# Altium schematic symbol library SparkFun-Retired.SCHLIB: 390 symbols (part 4 of 5)
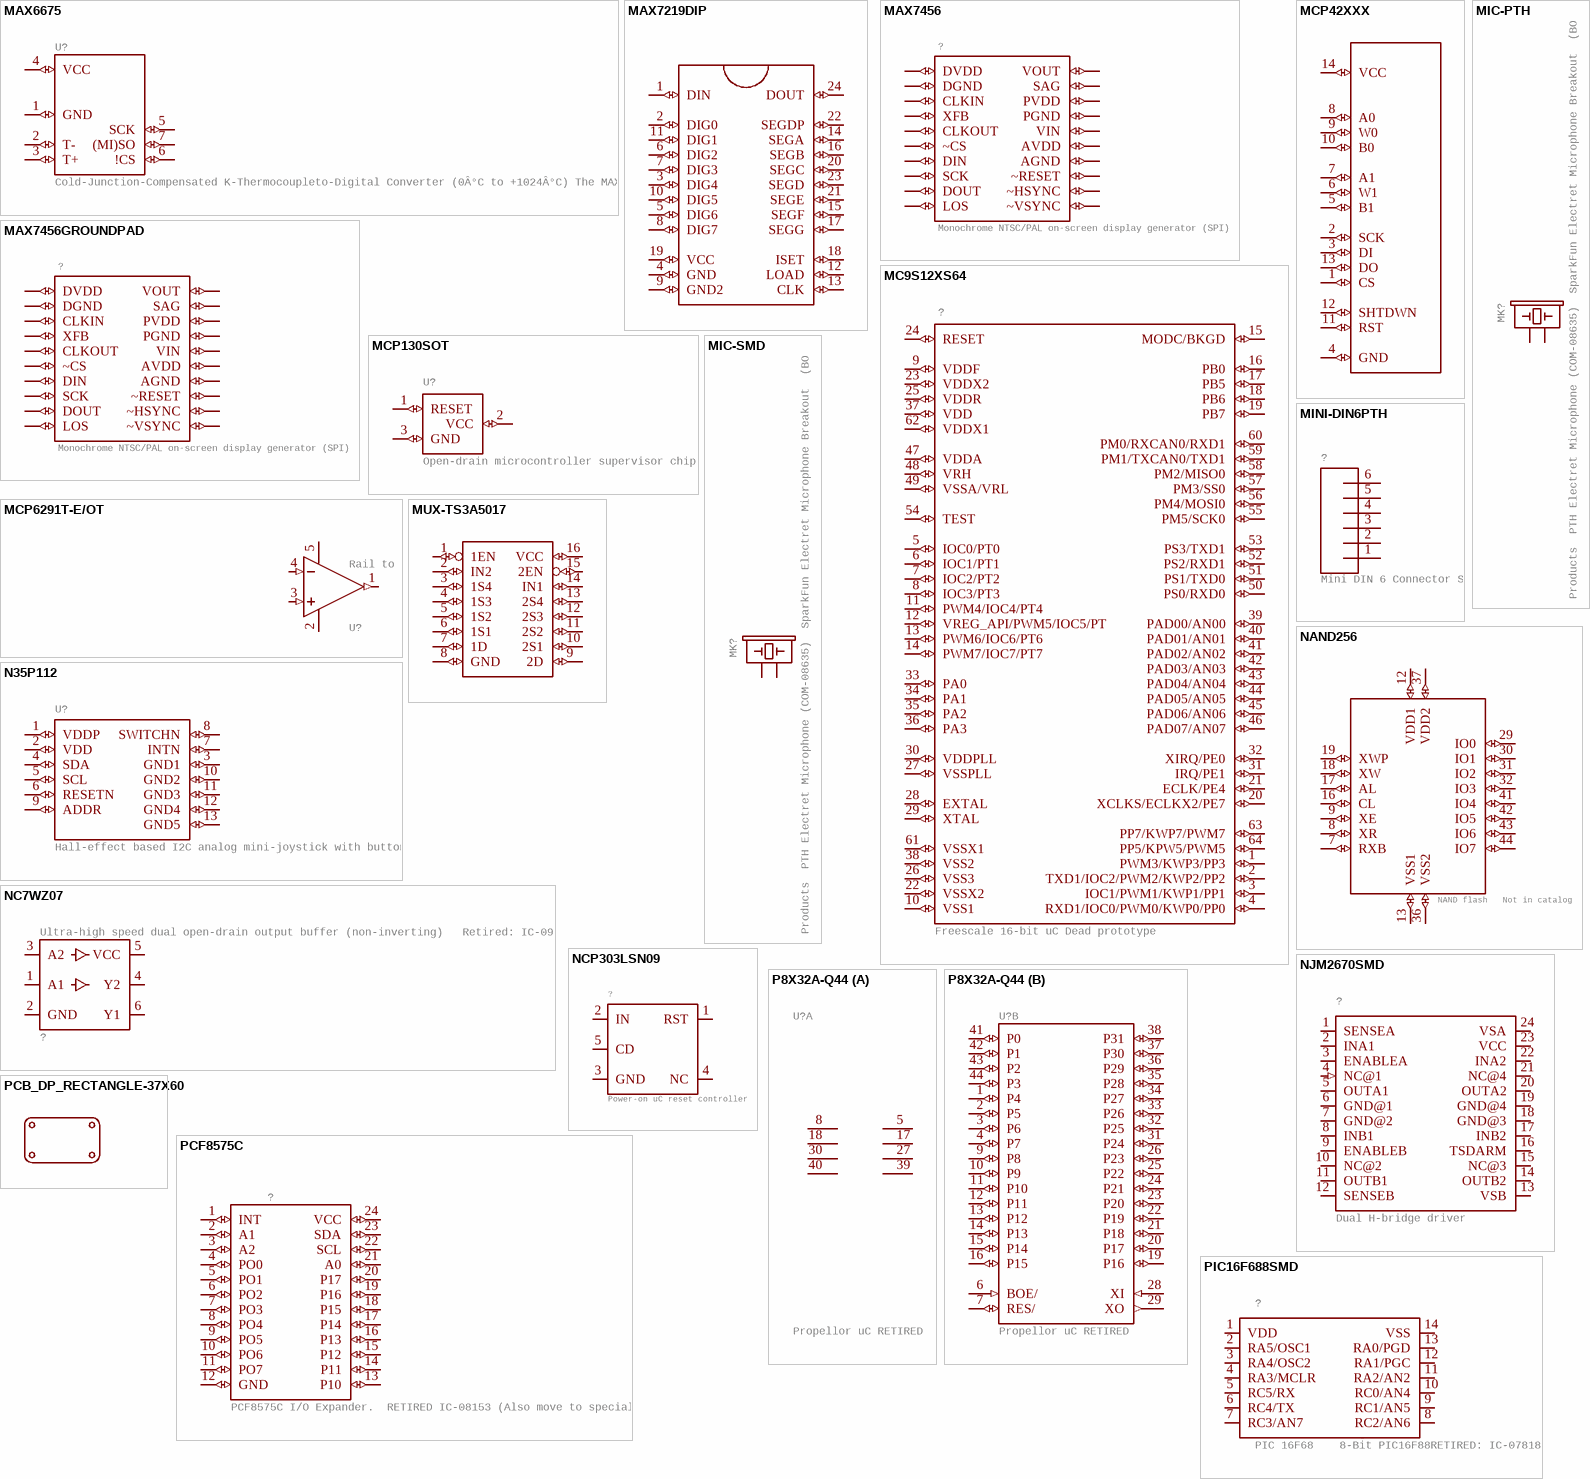
[diagram p29: symbols MAX6675 to PIC16F688SMD]

## MCP42XXX
designator U?, comment SPI controlled dual digital potentiometer by Microchip  Not in catalog?  (value not drawn)
GateName_1: G$1; SymbolName_1: MCP42XXX; LibraryName: SparkFun-Retired; DeviceSetName: MCP42XXX; Package: SO014
footprint SO014
pins: 1 CS (io), 2 SCK (io), 3 DI (io), 4 GND (io), 5 B1 (io), 6 W1 (io), 7 A1 (io), 8 A0 (io), 9 W0 (io), 10 B0 (io), 11 RST (io), 12 SHTDWN (io), 13 DO (io), 14 VCC (io)

## MCP130SOT
designator U?, comment Open-drain microcontroller supervisor chip
GateName_1: G$1; SymbolName_1: MCP130; DeviceName: SOT; LibraryName: SparkFun-Retired; DeviceSetName: MCP130; Package: SOT23-3
footprint SOT23-3
pins: 1 RESET (io), 2 VCC (io), 3 GND (io)

## MCP6291T-E/OT
designator U?, comment Rail to rail OpAmp with 10MHz GBP  Prototype: IC-11991
GateName_1: G$1; SymbolName_1: OP-AMP+-; DeviceName: T-E/OT; DeviceSetName: MCP6291; LibraryName: SparkFun-Retired; Package: SOT23-5; PROD_ID: IC-11991
footprint SOT23-5
pins: 1 OUT (out), 2 V- (power), 3 +IN (in), 4 -IN (in), 5 V+ (power)

## MIC-PTH
designator MK?, comment Microphone    Omni-directional electret microphones - one through-hole, the other SMD.   Datasheet (through-hole mic)   Datasheet (SMD mic) SparkFun Products  PTH Electret Microphone (COM-08635)  SparkFun Electret Microphone Breakout  (BOB-09964)  Digital Sandbox (DEV-12651)  SparkFun Sound Detector (SEN-12642)     SMD Microphone SparkFun Voice Recorder Breakout - ISD1932 (BOB-10653)
GateName_1: >NAME; DeviceName: -PTH; PROD_ID: COMP-08856; SymbolName_1: MIC; LibraryName: SparkFun-Retired; DeviceSetName: MIC; Package: MICROPHONE-PTH-9.7MM; SF_ID: COM-08635
footprint MICROPHONE-PTH-9.7MM
pins: 1, 2

## MIC-SMD
designator MK?, comment Microphone    Omni-directional electret microphones - one through-hole, the other SMD.   Datasheet (through-hole mic)   Datasheet (SMD mic) SparkFun Products  PTH Electret Microphone (COM-08635)  SparkFun Electret Microphone Breakout  (BOB-09964)  Digital Sandbox (DEV-12651)  SparkFun Sound Detector (SEN-12642)     SMD Microphone SparkFun Voice Recorder Breakout - ISD1932 (BOB-10653)
GateName_1: >NAME; DeviceName: -SMD; PROD_ID: COMP-10458; SymbolName_1: MIC; LibraryName: SparkFun-Retired; DeviceSetName: MIC; Package: MICROPHONE-SMD-6MM
footprint MICROPHONE-SMD-6MM
pins: 1, 2

## MINI-DIN6PTH
designator ?, comment Mini DIN 6 Connector SparkFun used to sell this connector and has used it on a couple designs, however the connector and the designs are now retired.   Mini DIN 6 Connector [RETIRED]  SparkFun Key Counter - PS2 [RETIRED]  Commonly found on the back of a computer for PS2 keyboard and mice. Schematic and footprint are proven.
GateName_1: G$1; SymbolName_1: CONN_06; DeviceName: PTH; DeviceSetName: MINI-DIN6; LibraryName: SparkFun-Retired; Package: MINI-DIN6
footprint MINI-DIN6
pins: 1, 2, 3, 4, 5, 6

## MUX-TS3A5017
designator ?, comment Dual-channel 4:1 analog mux  Retired: IC-08862  (value not drawn)
GateName_1: G$1; SymbolName_1: TS3A5017; DeviceSetName: MUX-TS3A5017; LibraryName: SparkFun-Retired; Package: SO16
footprint SO16
pins: 1 1EN (io), 2 IN2 (io), 3 1S4 (io), 4 1S3 (io), 5 1S2 (io), 6 1S1 (io), 7 1D (io), 8 GND (io), 9 2D (io), 10 2S1 (io), 11 2S2 (io), 12 2S3 (io), 13 2S4 (io), 14 IN1 (io), 15 2EN (io), 16 VCC (io)

## N35P112
designator U?, comment Hall-effect based I2C analog mini-joystick with button
GateName_1: G$1; SymbolName_1: N35P112; PROD_ID: SWCH-10635; LibraryName: SparkFun-Retired; DeviceSetName: N35P112; Package: N35P112
footprint N35P112
pins: 1 VDDP (io), 2 VDD (io), 3 GND1 (io), 4 SDA (io), 5 SCL (io), 6 RESETN (io), 7 INTN (io), 8 SWITCHN (io), 9 ADDR (io), 10 GND2 (io), 11 GND3 (io), 12 GND4 (io), 13 GND5 (io)

## NAND256
designator ?, comment NAND flash   Not in catalog
GateName_1: G$1; SymbolName_1: NAND256; LibraryName: SparkFun-Retired; DeviceSetName: NAND256; Package: TSOP48
footprint TSOP48
pins: 7 RXB (io), 8 XR (io), 9 XE (io), 12 VDD1 (io), 13 VSS1 (io), 16 CL (io), 17 AL (io), 18 XW (io), 19 XWP (io), 29 IO0 (io), 30 IO1 (io), 31 IO2 (io), 32 IO3 (io), 36 VSS2 (io), 37 VDD2 (io), 41 IO4 (io), 42 IO5 (io), 43 IO6 (io), 44 IO7 (io)

## NC7WZ07
designator ?, comment Ultra-high speed dual open-drain output buffer (non-inverting)   Retired: IC-09351
GateName_1: G$1; SymbolName_1: BUFFER-DUAL; DeviceSetName: NC7WZ07; LibraryName: SparkFun-Retired; Package: SC70-6
footprint SC70-6
pins: 1 A1 (io), 2 GND (io), 3 A2 (io), 4 Y2 (io), 5 VCC (io), 6 Y1 (io)

## NCP303LSN09
designator ?, comment Power-on uC reset controller
GateName_1: G$1; SymbolName_1: NCP303LSN09; LibraryName: SparkFun-Retired; DeviceSetName: NCP303LSN09; Package: SOT23-5
footprint SOT23-5
pins: 1 RST (io), 2 IN (io), 3 GND (io), 4 NC (io), 5 CD (io)

## NJM2670SMD
designator ?, comment Dual H-bridge driver
GateName_1: G$1; SymbolName_1: NJM2670; DeviceName: SMD; LibraryName: SparkFun-Retired; DeviceSetName: NJM2670; Package: SO-24W
footprint SO-24W
pins: 1 SENSEA (io), 2 INA1 (io), 3 ENABLEA (io), 4 NC@1 (in), 5 OUTA1 (power), 6 GND@1 (power), 7 GND@2 (io), 8 INB1 (io), 9 ENABLEB (io), 10 NC@2 (io), 11 OUTB1 (io), 12 SENSEB (io), 13 VSB (io), 14 OUTB2 (io), 15 NC@3 (io), 16 TSDARM (io), 17 INB2 (io), 18 GND@3 (io), 19 GND@4 (power), 20 OUTA2 (power), 21 NC@4 (io), 22 INA2 (io), 23 VCC (io), 24 VSA (io)

## P8X32A-Q44
designator U?, comment Propellor uC RETIRED
GateName_1: P; SymbolName_1: 4VDD4VSS; GateName_2: P8X32A-Q44; SymbolName_2: P8X32A; PROD_ID: IC-10929; LibraryName: SparkFun-Retired; DeviceSetName: P8X32A-Q44; Package: P8X32A-Q44_MCU
footprint P8X32A-Q44_MCU
part A pins: 5 VSS@1 (power), 8 VDD@1 (power), 17 VSS@2 (power), 18 VDD@2 (power), 27 VSS@3 (power), 30 VDD@3 (power), 39 VSS@4 (power), 40 VDD@4 (power)
part B pins: 1 P4 (io), 2 P5 (io), 3 P6 (io), 4 P7 (io), 6 BOE/ (in), 7 RES/ (io), 9 P8 (io), 10 P9 (io), 11 P10 (io), 12 P11 (io), 13 P12 (io), 14 P13 (io), 15 P14 (io), 16 P15 (io), 19 P16 (io), 20 P17 (io), 21 P18 (io), 22 P19 (io), 23 P20 (io), 24 P21 (io), 25 P22 (io), 26 P23 (io), 28 XI (in), 29 XO (out), 31 P24 (io), 32 P25 (io), 33 P26 (io), 34 P27 (io), 35 P28 (io), 36 P29 (io), 37 P30 (io), 38 P31 (io), 41 P0 (io), 42 P1 (io), 43 P2 (io), 44 P3 (io)

## PCB_DP_RECTANGLE-37X60
designator PCB?, comment Dangerous Prototypes Standard Rectangular PCB sizes  (value not drawn)
GateName_1: G$1; SymbolName_1: PCB_STANDARD; DeviceName: -37X60; DeviceSetName: PCB_DP_RECTANGLE; LibraryName: SparkFun-Retired; Package: DP6037_V1
footprint DP6037_V1

## PCF8575C
designator ?, comment PCF8575C I/O Expander.  RETIRED IC-08153 (Also move to special)
GateName_1: G$1; SymbolName_1: PCF8575C; LibraryName: SparkFun-Retired; DeviceSetName: PCF8575C; Package: SO-24DW
footprint SO-24DW
pins: 1 INT (io), 2 A1 (io), 3 A2 (io), 4 PO0 (io), 5 PO1 (io), 6 PO2 (io), 7 PO3 (io), 8 PO4 (io), 9 PO5 (io), 10 PO6 (io), 11 PO7 (io), 12 GND (io), 13 P10 (io), 14 P11 (io), 15 P12 (io), 16 P13 (io), 17 P14 (io), 18 P15 (io), 19 P16 (io), 20 P17 (io), 21 A0 (io), 22 SCL (io), 23 SDA (io), 24 VCC (io)

## PIC16F688SMD
designator ?, comment PIC 16F68    8-Bit PIC16F88RETIRED: IC-07818
GateName_1: G$1; DeviceName: SMD; SymbolName_1: PIC16F688; LibraryName: SparkFun-Retired; DeviceSetName: PIC16F688; Package: SO14_MCU
footprint SO14_MCU
pins: 1 VDD (power), 2 RA5/OSC1 (io), 3 RA4/OSC2 (io), 4 RA3/MCLR (io), 5 RC5/RX (io), 6 RC4/TX (io), 7 RC3/AN7 (io), 8 RC2/AN6 (io), 9 RC1/AN5 (io), 10 RC0/AN4 (io), 11 RA2/AN2 (io), 12 RA1/PGC (io), 13 RA0/PGD (io), 14 VSS (power)

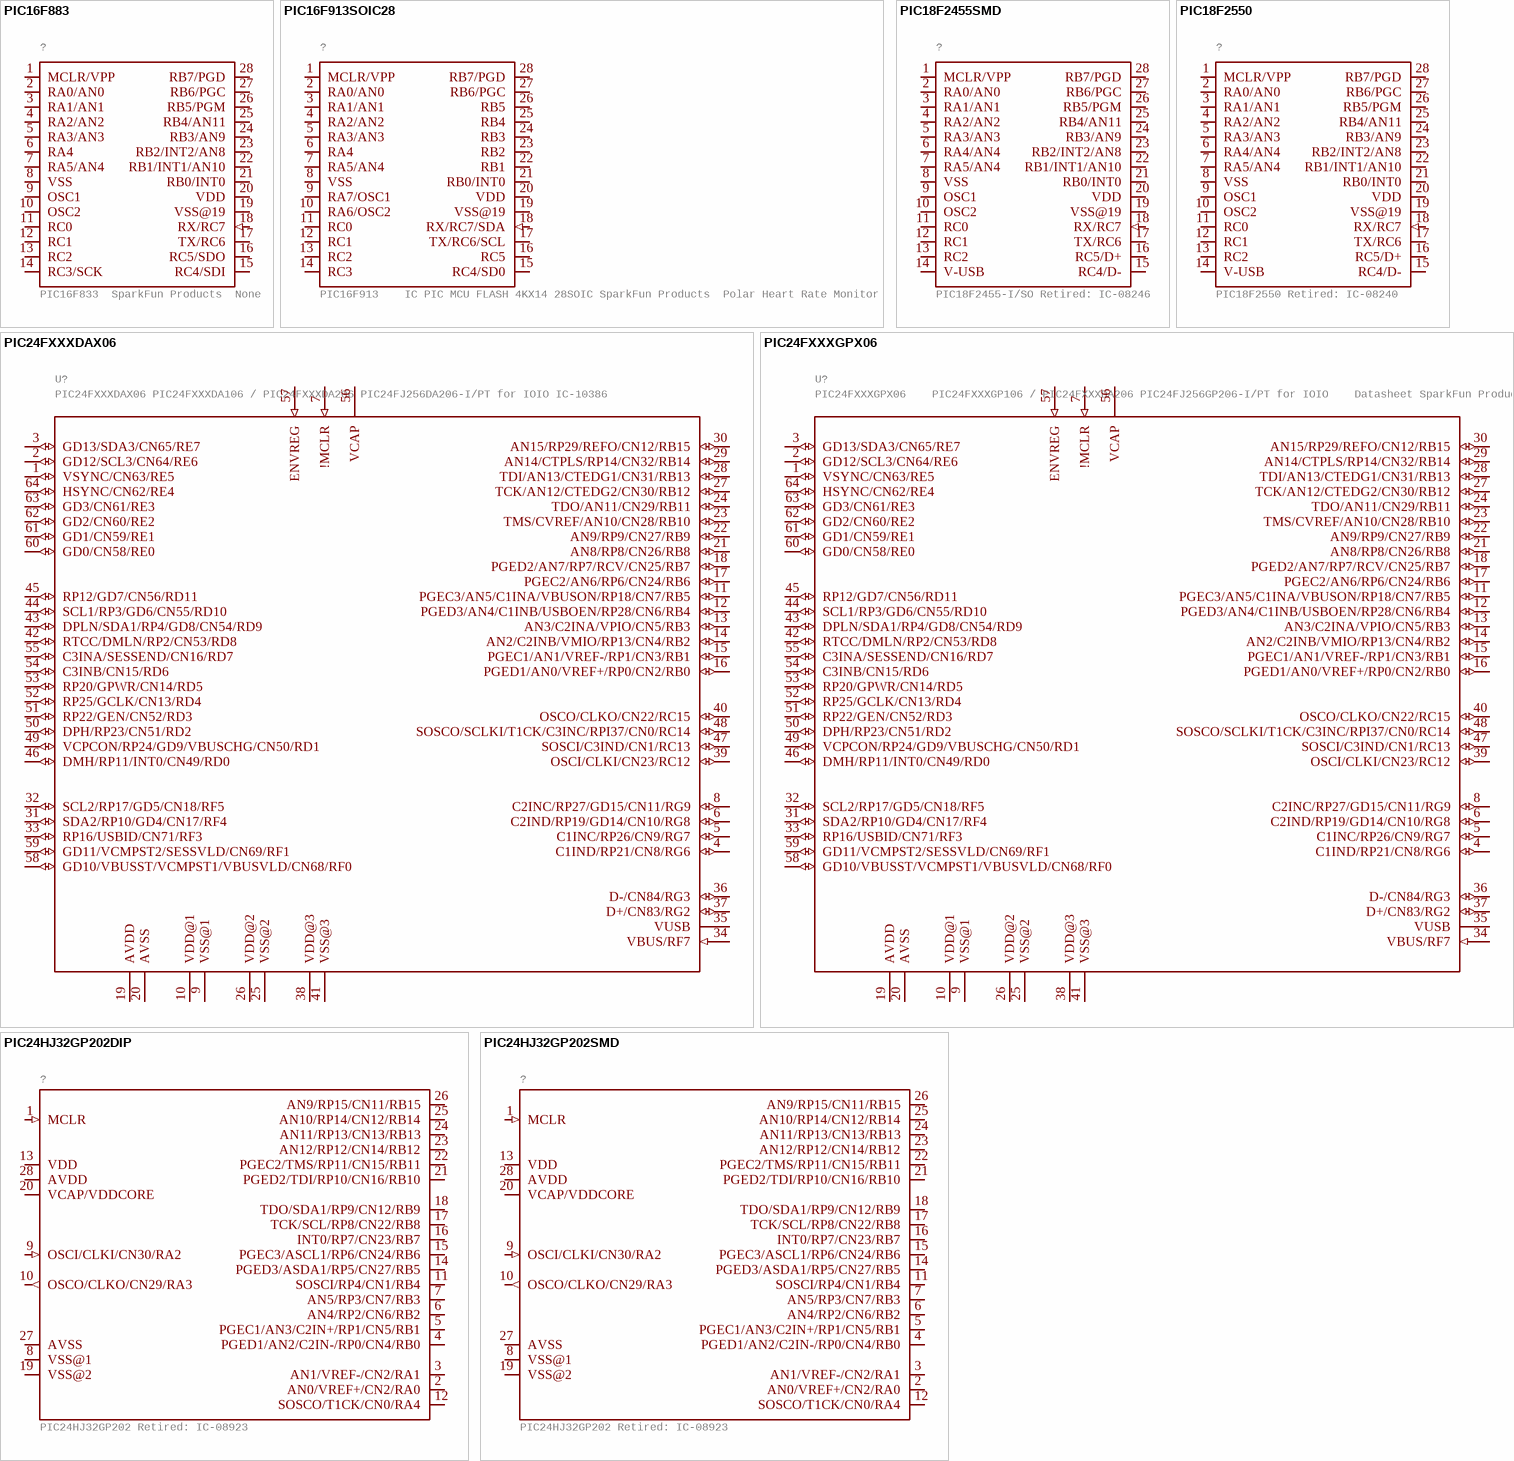
[diagram p17: symbols PIC16F883 to PIC24HJ32GP202SMD]

## PIC16F883
designator ?, comment PIC16F833  SparkFun Products  None
GateName_1: G$1; SymbolName_1: PIC16F883; LibraryName: SparkFun-Retired; DeviceSetName: PIC16F883; Package: SO-28W_MCU
footprint SO-28W_MCU
pins: 1 MCLR/VPP (io), 2 RA0/AN0 (io), 3 RA1/AN1 (io), 4 RA2/AN2 (io), 5 RA3/AN3 (io), 6 RA4 (io), 7 RA5/AN4 (io), 8 VSS (power), 9 OSC1 (io), 10 OSC2 (io), 11 RC0 (io), 12 RC1 (io), 13 RC2 (io), 14 RC3/SCK (io), 15 RC4/SDI (io), 16 RC5/SDO (io), 17 TX/RC6 (io), 18 RX/RC7 (in), 19 VSS@19 (power), 20 VDD (power), 21 RB0/INT0 (io), 22 RB1/INT1/AN10 (io), 23 RB2/INT2/AN8 (io), 24 RB3/AN9 (io), 25 RB4/AN11 (io), 26 RB5/PGM (io), 27 RB6/PGC (io), 28 RB7/PGD (io)

## PIC16F913SOIC28
designator ?, comment PIC16F913    IC PIC MCU FLASH 4KX14 28SOIC SparkFun Products  Polar Heart Rate Monitor Interface (SEN-08661)    Short timer
GateName_1: G$1; DeviceName: SOIC28; SymbolName_1: PIC16F913; LibraryName: SparkFun-Retired; DeviceSetName: PIC16F913; Package: SO-28W_MCU
footprint SO-28W_MCU
pins: 1 MCLR/VPP (io), 2 RA0/AN0 (io), 3 RA1/AN1 (io), 4 RA2/AN2 (io), 5 RA3/AN3 (io), 6 RA4 (io), 7 RA5/AN4 (io), 8 VSS (power), 9 RA7/OSC1 (io), 10 RA6/OSC2 (io), 11 RC0 (io), 12 RC1 (io), 13 RC2 (io), 14 RC3 (io), 15 RC4/SD0 (io), 16 RC5 (io), 17 TX/RC6/SCL (io), 18 RX/RC7/SDA (in), 19 VSS@19 (power), 20 VDD (power), 21 RB0/INT0 (io), 22 RB1 (io), 23 RB2 (io), 24 RB3 (io), 25 RB4 (io), 26 RB5 (io), 27 RB6/PGC (io), 28 RB7/PGD (io)

## PIC18F2455SMD
designator ?, comment PIC18F2455-I/SO Retired: IC-08246
GateName_1: G$1; SymbolName_1: PIC18F2550; DeviceName: SMD; LibraryName: SparkFun-Retired; DeviceSetName: PIC18F2455; Package: SO-28W_MCU
footprint SO-28W_MCU
pins: 1 MCLR/VPP (io), 2 RA0/AN0 (io), 3 RA1/AN1 (io), 4 RA2/AN2 (io), 5 RA3/AN3 (io), 6 RA4/AN4 (io), 7 RA5/AN4 (io), 8 VSS (power), 9 OSC1 (io), 10 OSC2 (io), 11 RC0 (io), 12 RC1 (io), 13 RC2 (io), 14 V-USB (io), 15 RC4/D- (io), 16 RC5/D+ (io), 17 TX/RC6 (io), 18 RX/RC7 (in), 19 VSS@19 (power), 20 VDD (power), 21 RB0/INT0 (io), 22 RB1/INT1/AN10 (io), 23 RB2/INT2/AN8 (io), 24 RB3/AN9 (io), 25 RB4/AN11 (io), 26 RB5/PGM (io), 27 RB6/PGC (io), 28 RB7/PGD (io)

## PIC18F2550
designator ?, comment PIC18F2550 Retired: IC-08240
GateName_1: G$1; SymbolName_1: PIC18F2550; LibraryName: SparkFun-Retired; DeviceSetName: PIC18F2550; Package: DIP28_MCU
footprint DIP28_MCU
pins: 1 MCLR/VPP (io), 2 RA0/AN0 (io), 3 RA1/AN1 (io), 4 RA2/AN2 (io), 5 RA3/AN3 (io), 6 RA4/AN4 (io), 7 RA5/AN4 (io), 8 VSS (power), 9 OSC1 (io), 10 OSC2 (io), 11 RC0 (io), 12 RC1 (io), 13 RC2 (io), 14 V-USB (io), 15 RC4/D- (io), 16 RC5/D+ (io), 17 TX/RC6 (io), 18 RX/RC7 (in), 19 VSS@19 (power), 20 VDD (power), 21 RB0/INT0 (io), 22 RB1/INT1/AN10 (io), 23 RB2/INT2/AN8 (io), 24 RB3/AN9 (io), 25 RB4/AN11 (io), 26 RB5/PGM (io), 27 RB6/PGC (io), 28 RB7/PGD (io)

## PIC24FXXXDAX06
designator U?, comment PIC24FXXXDAX06 PIC24FXXXDA106 / PIC24FXXXDA206 PIC24FJ256DA206-I/PT for IOIO IC-10386
GateName_1: G$1; SymbolName_1: PIC24FJXXXDAX06; LibraryName: SparkFun-Retired; DeviceSetName: PIC24FXXXDAX06; Package: PIC24FXXX_TQFP64; PROD_ID: IC-10386
footprint PIC24FXXX_TQFP64
pins: 1 VSYNC/CN63/RE5 (io), 2 GD12/SCL3/CN64/RE6 (io), 3 GD13/SDA3/CN65/RE7 (io), 4 C1IND/RP21/CN8/RG6 (io), 5 C1INC/RP26/CN9/RG7 (io), 6 C2IND/RP19/GD14/CN10/RG8 (io), 7 !MCLR (in), 8 C2INC/RP27/GD15/CN11/RG9 (io), 9 VSS@1 (power), 10 VDD@1 (power), 11 PGEC3/AN5/C1INA/VBUSON/RP18/CN7/RB5 (io), 12 PGED3/AN4/C1INB/USBOEN/RP28/CN6/RB4 (io), 13 AN3/C2INA/VPIO/CN5/RB3 (io), 14 AN2/C2INB/VMIO/RP13/CN4/RB2 (io), 15 PGEC1/AN1/VREF-/RP1/CN3/RB1 (io), 16 PGED1/AN0/VREF+/RP0/CN2/RB0 (io), 17 PGEC2/AN6/RP6/CN24/RB6 (io), 18 PGED2/AN7/RP7/RCV/CN25/RB7 (io), 19 AVDD (power), 20 AVSS (power), 21 AN8/RP8/CN26/RB8 (io), 22 AN9/RP9/CN27/RB9 (io), 23 TMS/CVREF/AN10/CN28/RB10 (io), 24 TDO/AN11/CN29/RB11 (io), 25 VSS@2 (power), 26 VDD@2 (power), 27 TCK/AN12/CTEDG2/CN30/RB12 (io), 28 TDI/AN13/CTEDG1/CN31/RB13 (io), 29 AN14/CTPLS/RP14/CN32/RB14 (io), 30 AN15/RP29/REFO/CN12/RB15 (io), 31 SDA2/RP10/GD4/CN17/RF4 (io), 32 SCL2/RP17/GD5/CN18/RF5 (io), 33 RP16/USBID/CN71/RF3 (io), 34 VBUS/RF7 (in), 35 VUSB (power), 36 D-/CN84/RG3 (io), 37 D+/CN83/RG2 (io), 38 VDD@3 (power), 39 OSCI/CLKI/CN23/RC12 (io), 40 OSCO/CLKO/CN22/RC15 (io), 41 VSS@3 (power), 42 RTCC/DMLN/RP2/CN53/RD8 (io), 43 DPLN/SDA1/RP4/GD8/CN54/RD9 (io), 44 SCL1/RP3/GD6/CN55/RD10 (io), 45 RP12/GD7/CN56/RD11 (io), 46 DMH/RP11/INT0/CN49/RD0 (io), 47 SOSCI/C3IND/CN1/RC13 (io), 48 SOSCO/SCLKI/T1CK/C3INC/RPI37/CN0/RC14 (io), 49 VCPCON/RP24/GD9/VBUSCHG/CN50/RD1 (io), 50 DPH/RP23/CN51/RD2 (io), 51 RP22/GEN/CN52/RD3 (io), 52 RP25/GCLK/CN13/RD4 (io), 53 RP20/GPWR/CN14/RD5 (io), 54 C3INB/CN15/RD6 (io), 55 C3INA/SESSEND/CN16/RD7 (io), 56 VCAP (power), 57 ENVREG (in), 58 GD10/VBUSST/VCMPST1/VBUSVLD/CN68/RF0 (io), 59 GD11/VCMPST2/SESSVLD/CN69/RF1 (io), 60 GD0/CN58/RE0 (io), 61 GD1/CN59/RE1 (io), 62 GD2/CN60/RE2 (io), 63 GD3/CN61/RE3 (io), 64 HSYNC/CN62/RE4 (io)

## PIC24FXXXGPX06
designator U?, comment PIC24FXXXGPX06    PIC24FXXXGP106 / PIC24FXXXDA206 PIC24FJ256GP206-I/PT for IOIO    Datasheet SparkFun Products  IOIO-OTG - V2.2 (DEV-13613)
GateName_1: G$1; SymbolName_1: PIC24FJXXXDAX06; PROD_ID: IC-11312; LibraryName: SparkFun-Retired; DeviceSetName: PIC24FXXXGPX06; Package: PIC24FXXX_TQFP64_MCU
footprint PIC24FXXX_TQFP64_MCU
pins: 1 VSYNC/CN63/RE5 (io), 2 GD12/SCL3/CN64/RE6 (io), 3 GD13/SDA3/CN65/RE7 (io), 4 C1IND/RP21/CN8/RG6 (io), 5 C1INC/RP26/CN9/RG7 (io), 6 C2IND/RP19/GD14/CN10/RG8 (io), 7 !MCLR (in), 8 C2INC/RP27/GD15/CN11/RG9 (io), 9 VSS@1 (power), 10 VDD@1 (power), 11 PGEC3/AN5/C1INA/VBUSON/RP18/CN7/RB5 (io), 12 PGED3/AN4/C1INB/USBOEN/RP28/CN6/RB4 (io), 13 AN3/C2INA/VPIO/CN5/RB3 (io), 14 AN2/C2INB/VMIO/RP13/CN4/RB2 (io), 15 PGEC1/AN1/VREF-/RP1/CN3/RB1 (io), 16 PGED1/AN0/VREF+/RP0/CN2/RB0 (io), 17 PGEC2/AN6/RP6/CN24/RB6 (io), 18 PGED2/AN7/RP7/RCV/CN25/RB7 (io), 19 AVDD (power), 20 AVSS (power), 21 AN8/RP8/CN26/RB8 (io), 22 AN9/RP9/CN27/RB9 (io), 23 TMS/CVREF/AN10/CN28/RB10 (io), 24 TDO/AN11/CN29/RB11 (io), 25 VSS@2 (power), 26 VDD@2 (power), 27 TCK/AN12/CTEDG2/CN30/RB12 (io), 28 TDI/AN13/CTEDG1/CN31/RB13 (io), 29 AN14/CTPLS/RP14/CN32/RB14 (io), 30 AN15/RP29/REFO/CN12/RB15 (io), 31 SDA2/RP10/GD4/CN17/RF4 (io), 32 SCL2/RP17/GD5/CN18/RF5 (io), 33 RP16/USBID/CN71/RF3 (io), 34 VBUS/RF7 (in), 35 VUSB (power), 36 D-/CN84/RG3 (io), 37 D+/CN83/RG2 (io), 38 VDD@3 (power), 39 OSCI/CLKI/CN23/RC12 (io), 40 OSCO/CLKO/CN22/RC15 (io), 41 VSS@3 (power), 42 RTCC/DMLN/RP2/CN53/RD8 (io), 43 DPLN/SDA1/RP4/GD8/CN54/RD9 (io), 44 SCL1/RP3/GD6/CN55/RD10 (io), 45 RP12/GD7/CN56/RD11 (io), 46 DMH/RP11/INT0/CN49/RD0 (io), 47 SOSCI/C3IND/CN1/RC13 (io), 48 SOSCO/SCLKI/T1CK/C3INC/RPI37/CN0/RC14 (io), 49 VCPCON/RP24/GD9/VBUSCHG/CN50/RD1 (io), 50 DPH/RP23/CN51/RD2 (io), 51 RP22/GEN/CN52/RD3 (io), 52 RP25/GCLK/CN13/RD4 (io), 53 RP20/GPWR/CN14/RD5 (io), 54 C3INB/CN15/RD6 (io), 55 C3INA/SESSEND/CN16/RD7 (io), 56 VCAP (power), 57 ENVREG (in), 58 GD10/VBUSST/VCMPST1/VBUSVLD/CN68/RF0 (io), 59 GD11/VCMPST2/SESSVLD/CN69/RF1 (io), 60 GD0/CN58/RE0 (io), 61 GD1/CN59/RE1 (io), 62 GD2/CN60/RE2 (io), 63 GD3/CN61/RE3 (io), 64 HSYNC/CN62/RE4 (io)

## PIC24HJ32GP202DIP
designator ?, comment PIC24HJ32GP202 Retired: IC-08923
GateName_1: G$1; DeviceName: DIP; SymbolName_1: PIC24HJ32GP202; LibraryName: SparkFun-Retired; DeviceSetName: PIC24HJ32GP202; Package: DIP28_MCU
footprint DIP28_MCU
pins: 1 MCLR (in), 2 AN0/VREF+/CN2/RA0 (io), 3 AN1/VREF-/CN2/RA1 (io), 4 PGED1/AN2/C2IN-/RP0/CN4/RB0 (io), 5 PGEC1/AN3/C2IN+/RP1/CN5/RB1 (io), 6 AN4/RP2/CN6/RB2 (io), 7 AN5/RP3/CN7/RB3 (io), 8 VSS@1 (power), 9 OSCI/CLKI/CN30/RA2 (in), 10 OSCO/CLKO/CN29/RA3 (out), 11 SOSCI/RP4/CN1/RB4 (io), 12 SOSCO/T1CK/CN0/RA4 (io), 13 VDD (power), 14 PGED3/ASDA1/RP5/CN27/RB5 (io), 15 PGEC3/ASCL1/RP6/CN24/RB6 (io), 16 INT0/RP7/CN23/RB7 (io), 17 TCK/SCL/RP8/CN22/RB8 (io), 18 TDO/SDA1/RP9/CN12/RB9 (io), 19 VSS@2 (power), 20 VCAP/VDDCORE (power), 21 PGED2/TDI/RP10/CN16/RB10 (io), 22 PGEC2/TMS/RP11/CN15/RB11 (io), 23 AN12/RP12/CN14/RB12 (io), 24 AN11/RP13/CN13/RB13 (io), 25 AN10/RP14/CN12/RB14 (io), 26 AN9/RP15/CN11/RB15 (io), 27 AVSS (power), 28 AVDD (power)

## PIC24HJ32GP202SMD
designator ?, comment PIC24HJ32GP202 Retired: IC-08923
GateName_1: G$1; DeviceName: SMD; SymbolName_1: PIC24HJ32GP202; LibraryName: SparkFun-Retired; DeviceSetName: PIC24HJ32GP202; Package: SO-28W_MCU
footprint SO-28W_MCU
pins: 1 MCLR (in), 2 AN0/VREF+/CN2/RA0 (io), 3 AN1/VREF-/CN2/RA1 (io), 4 PGED1/AN2/C2IN-/RP0/CN4/RB0 (io), 5 PGEC1/AN3/C2IN+/RP1/CN5/RB1 (io), 6 AN4/RP2/CN6/RB2 (io), 7 AN5/RP3/CN7/RB3 (io), 8 VSS@1 (power), 9 OSCI/CLKI/CN30/RA2 (in), 10 OSCO/CLKO/CN29/RA3 (out), 11 SOSCI/RP4/CN1/RB4 (io), 12 SOSCO/T1CK/CN0/RA4 (io), 13 VDD (power), 14 PGED3/ASDA1/RP5/CN27/RB5 (io), 15 PGEC3/ASCL1/RP6/CN24/RB6 (io), 16 INT0/RP7/CN23/RB7 (io), 17 TCK/SCL/RP8/CN22/RB8 (io), 18 TDO/SDA1/RP9/CN12/RB9 (io), 19 VSS@2 (power), 20 VCAP/VDDCORE (power), 21 PGED2/TDI/RP10/CN16/RB10 (io), 22 PGEC2/TMS/RP11/CN15/RB11 (io), 23 AN12/RP12/CN14/RB12 (io), 24 AN11/RP13/CN13/RB13 (io), 25 AN10/RP14/CN12/RB14 (io), 26 AN9/RP15/CN11/RB15 (io), 27 AVSS (power), 28 AVDD (power)

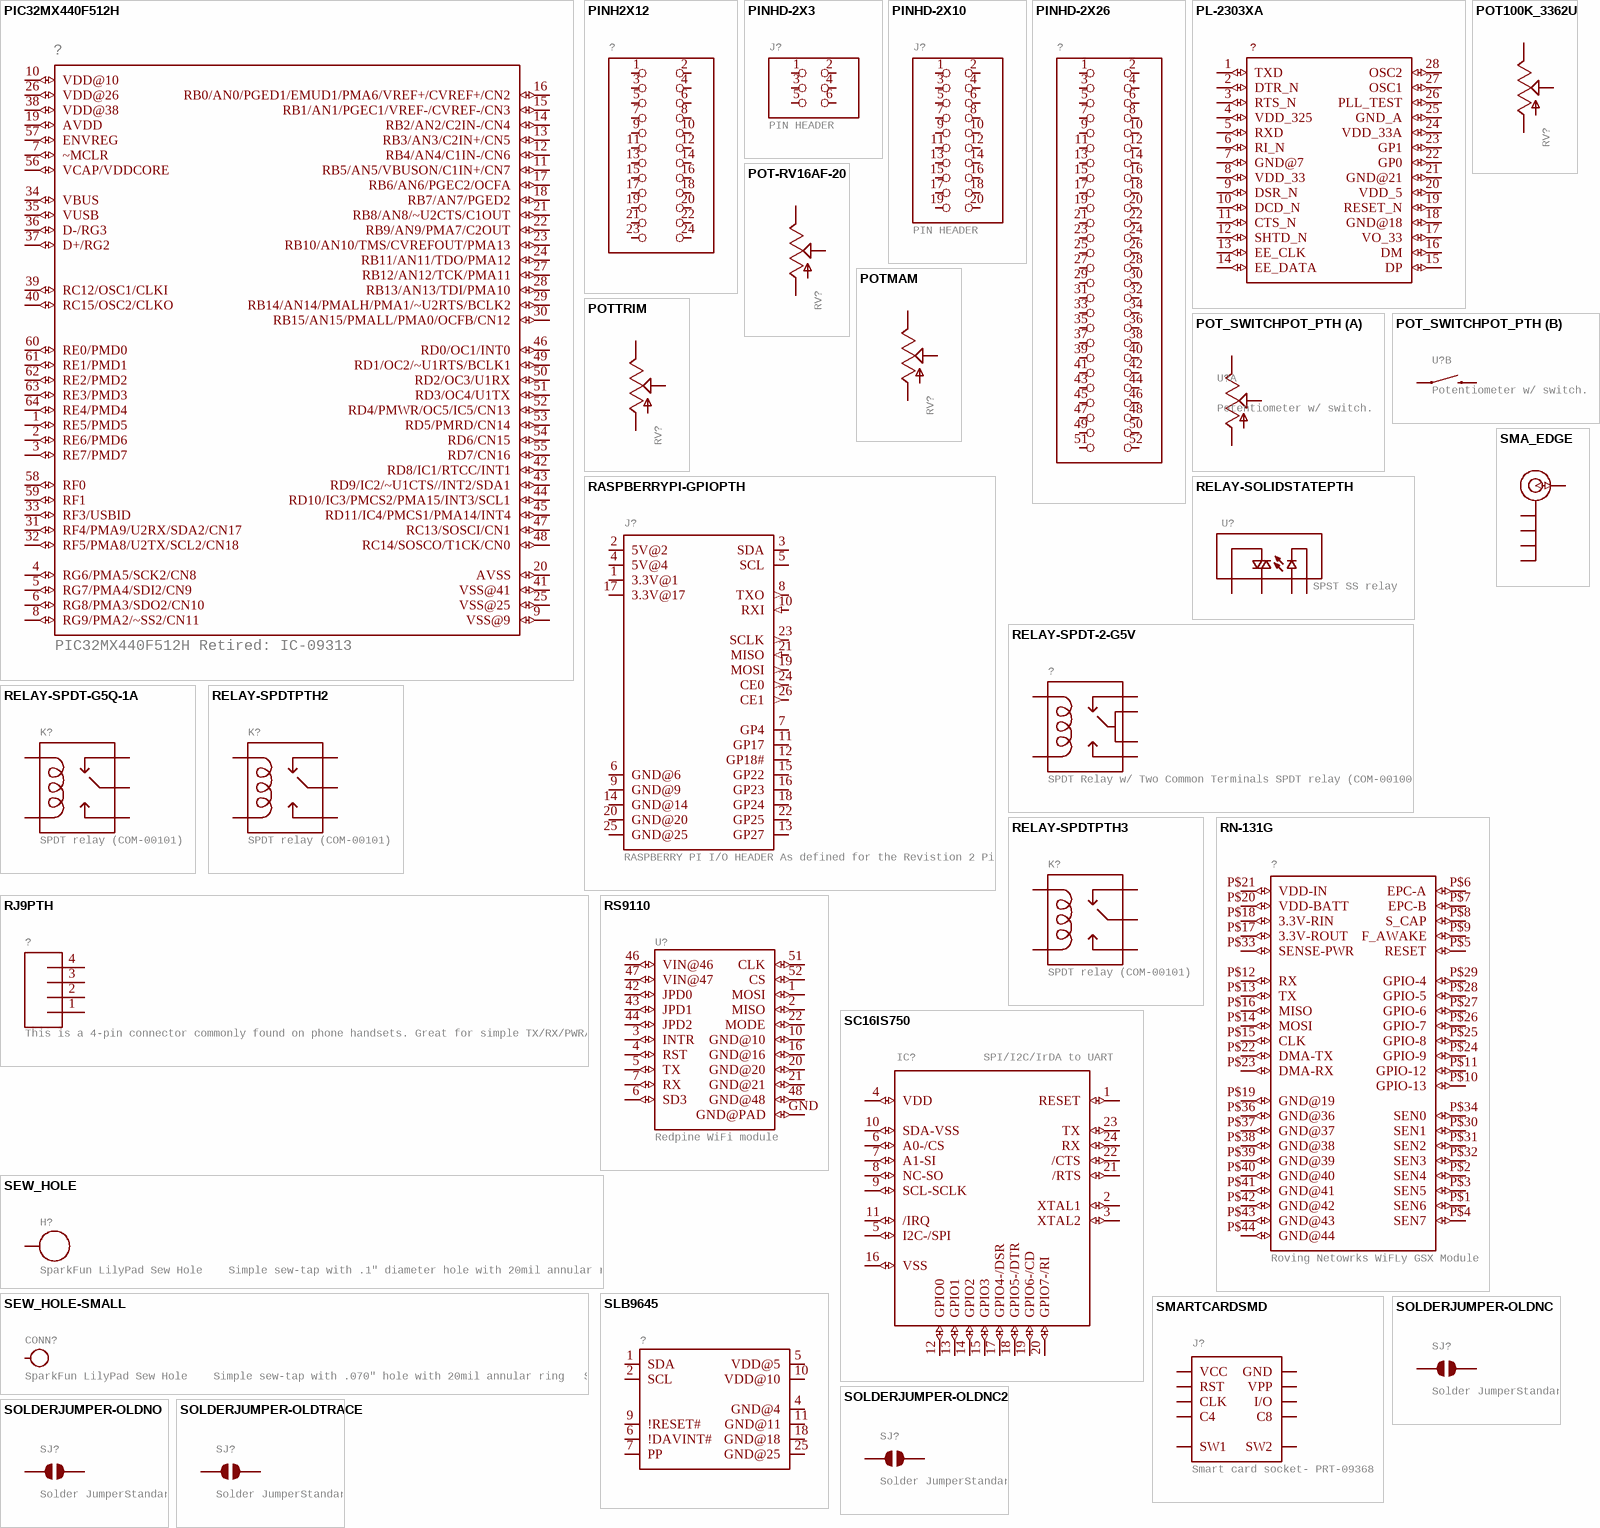
[diagram p18: symbols PIC32MX440F512H to SOLDERJUMPER-OLDTRACE]

## PIC32MX440F512H
designator ?, comment PIC32MX440F512H Retired: IC-09313
GateName_1: G$1; SymbolName_1: PIC32MX440F512H; LibraryName: SparkFun-Retired; DeviceSetName: PIC32MX440F512H; Package: SQFP-S-10X10-64_MCU
footprint SQFP-S-10X10-64_MCU
pins: 1 RE5/PMD5 (io), 2 RE6/PMD6 (io), 3 RE7/PMD7 (io), 4 RG6/PMA5/SCK2/CN8 (io), 5 RG7/PMA4/SDI2/CN9 (io), 6 RG8/PMA3/SDO2/CN10 (io), 7 ~MCLR (io), 8 RG9/PMA2/~SS2/CN11 (io), 9 VSS@9 (io), 10 VDD@10 (io), 11 RB5/AN5/VBUSON/C1IN+/CN7 (io), 12 RB4/AN4/C1IN-/CN6 (io), 13 RB3/AN3/C2IN+/CN5 (io), 14 RB2/AN2/C2IN-/CN4 (io), 15 RB1/AN1/PGEC1/VREF-/CVREF-/CN3 (io), 16 RB0/AN0/PGED1/EMUD1/PMA6/VREF+/CVREF+/CN2 (io), 17 RB6/AN6/PGEC2/OCFA (io), 18 RB7/AN7/PGED2 (io), 19 AVDD (io), 20 AVSS (io), 21 RB8/AN8/~U2CTS/C1OUT (io), 22 RB9/AN9/PMA7/C2OUT (io), 23 RB10/AN10/TMS/CVREFOUT/PMA13 (io), 24 RB11/AN11/TDO/PMA12 (io), 25 VSS@25 (io), 26 VDD@26 (io), 27 RB12/AN12/TCK/PMA11 (io), 28 RB13/AN13/TDI/PMA10 (io), 29 RB14/AN14/PMALH/PMA1/~U2RTS/BCLK2 (io), 30 RB15/AN15/PMALL/PMA0/OCFB/CN12 (io), 31 RF4/PMA9/U2RX/SDA2/CN17 (io), 32 RF5/PMA8/U2TX/SCL2/CN18 (io), 33 RF3/USBID (io), 34 VBUS (io), 35 VUSB (io), 36 D-/RG3 (io), 37 D+/RG2 (io), 38 VDD@38 (io), 39 RC12/OSC1/CLKI (io), 40 RC15/OSC2/CLKO (io), 41 VSS@41 (io), 42 RD8/IC1/RTCC/INT1 (io), 43 RD9/IC2/~U1CTS//INT2/SDA1 (io), 44 RD10/IC3/PMCS2/PMA15/INT3/SCL1 (io), 45 RD11/IC4/PMCS1/PMA14/INT4 (io), 46 RD0/OC1/INT0 (io), 47 RC13/SOSCI/CN1 (io), 48 RC14/SOSCO/T1CK/CN0 (io), 49 RD1/OC2/~U1RTS/BCLK1 (io), 50 RD2/OC3/U1RX (io), 51 RD3/OC4/U1TX (io), 52 RD4/PMWR/OC5/IC5/CN13 (io), 53 RD5/PMRD/CN14 (io), 54 RD6/CN15 (io), 55 RD7/CN16 (io), 56 VCAP/VDDCORE (io), 57 ENVREG (io), 58 RF0 (io), 59 RF1 (io), 60 RE0/PMD0 (io), 61 RE1/PMD1 (io), 62 RE2/PMD2 (io), 63 RE3/PMD3 (io), 64 RE4/PMD4 (io)

## PINH2X12
designator ?
GateName_1: G$1; SymbolName_1: PINH2X12; LibraryName: SparkFun-Retired; DeviceSetName: PINH2X12; Package: 2X12
footprint 2X12
pins: 1, 2, 3, 4, 5, 6, 7, 8, 9, 10, 11, 12, 13, 14, 15, 16, 17, 18, 19, 20, 21, 22, 23, 24

## PINHD-2X3
designator J?, comment PIN HEADER
GateName_1: A; SymbolName_1: PINH2X3; DeviceSetName: PINHD-2X3; LibraryName: SparkFun-Retired; Package: 2X03
footprint 2X03
pins: 1, 2, 3, 4, 5, 6

## PINHD-2X10
designator J?, comment PIN HEADER
GateName_1: A; SymbolName_1: PINH2X10; DeviceSetName: PINHD-2X10; LibraryName: SparkFun-Retired; Package: 2X10
footprint 2X10
pins: 1, 2, 3, 4, 5, 6, 7, 8, 9, 10, 11, 12, 13, 14, 15, 16, 17, 18, 19, 20

## PINHD-2X26
designator ?
GateName_1: G$1; SymbolName_1: PINH2X26; DeviceSetName: PINHD-2X26; LibraryName: SparkFun-Retired; Package: 2X26
footprint 2X26
pins: 1, 2, 3, 4, 5, 6, 7, 8, 9, 10, 11, 12, 13, 14, 15, 16, 17, 18, 19, 20, 21, 22, 23, 24, 25, 26, 27, 28, 29, 30, 31, 32, 33, 34, 35, 36, 37, 38, 39, 40, 41, 42, 43, 44, 45, 46, 47, 48, 49, 50, 51, 52

## PL-2303XA
designator ?, comment Prolific USB chip, requires 12MHz xtal Never stocked  (value not drawn)
GateName_1: G$1; SymbolName_1: PL-2303XA; LibraryName: SparkFun-Retired; DeviceSetName: PL-2303XA; Package: SSOP28DB
footprint SSOP28DB
pins: 1 TXD (io), 2 DTR_N (io), 3 RTS_N (io), 4 VDD_325 (io), 5 RXD (io), 6 RI_N (io), 7 GND@7 (io), 8 VDD_33 (io), 9 DSR_N (io), 10 DCD_N (io), 11 CTS_N (io), 12 SHTD_N (io), 13 EE_CLK (io), 14 EE_DATA (io), 15 DP (io), 16 DM (io), 17 VO_33 (io), 18 GND@18 (io), 19 RESET_N (io), 20 VDD_5 (io), 21 GND@21 (io), 22 GP0 (io), 23 GP1 (io), 24 VDD_33A (io), 25 GND_A (io), 26 PLL_TEST (io), 27 OSC1 (io), 28 OSC2 (io)

## POT100K_3362U
designator RV?
GateName_1: G$1; SymbolName_1: POT; DeviceName: 100K_3362U; PROD_ID: RES-08876; SF_SKU: COM-08647; LibraryName: SparkFun-Retired; DeviceSetName: POT; Package: 3362U
footprint 3362U
pins: P$1 E, P$2 S, P$3 A

## POT-RV16AF-20
designator RV?
GateName_1: G$1; SymbolName_1: POT; DeviceName: -RV16AF-20; PROD_ID: RES-10002; LibraryName: SparkFun-Retired; DeviceSetName: POT; Package: POT_ALPHA_RV16AF-20
footprint POT_ALPHA_RV16AF-20
pins: 1 A, 2 S, 3 E

## POT_SWITCHPOT_PTH
designator U?, comment Potentiometer w/ switch.
GateName_1: G$1; SymbolName_1: POT; GateName_2: G$2; SymbolName_2: SWITCH-MOMENTARY-2-1; DeviceName: POT_PTH; DeviceSetName: POT_SWITCH; LibraryName: SparkFun-Retired; Package: POT_PTH
footprint POT_PTH
part A pins: E@1 A, E@2 E, WAND S
part B pins: S1 1, S2 2

## POTMAM
designator RV?
GateName_1: G$1; SymbolName_1: POT; DeviceName: MAM; LibraryName: SparkFun-Retired; DeviceSetName: POT; Package: POT_MAMMOTH
footprint POT_MAMMOTH
pins: P$1 S, P$2 A, P$3 E

## POTTRIM
designator RV?
GateName_1: G$1; SymbolName_1: POT; DeviceName: TRIM; PROD_ID: COM-00104; LibraryName: SparkFun-Retired; DeviceSetName: POT; Package: TRIM_POT
footprint TRIM_POT
pins: 1 S, 2 E, 3 A

## RASPBERRYPI-GPIOPTH
designator J?, comment RASPBERRY PI I/O HEADER As defined for the Revistion 2 Pi.
GateName_1: JP1; SymbolName_1: RASPBERRYPI-GPIO; DeviceName: PTH; DIST: sparkfun; DIST_ID: PRT-11490; LibraryName: SparkFun-Retired; DeviceSetName: RASPBERRYPI-GPIO; Package: 2X13-SHROUDED
footprint 2X13-SHROUDED
pins: 1 3.3V@1 (power), 2 5V@2 (power), 3 SDA (io), 4 5V@4 (power), 5 SCL (io), 6 GND@6 (power), 7 GP4 (io), 8 TXO (out), 9 GND@9 (power), 10 RXI (in), 11 GP17 (io), 12 GP18# (io), 13 GP27 (io), 14 GND@14 (power), 15 GP22 (io), 16 GP23 (io), 17 3.3V@17 (power), 18 GP24 (io), 19 MOSI (out), 20 GND@20 (power), 21 MISO (in), 22 GP25 (io), 23 SCLK (out), 24 CE0 (out), 25 GND@25 (power), 26 CE1 (out)

## RELAY-SOLIDSTATEPTH
designator U?, comment SPST SS relay
GateName_1: G$1; SymbolName_1: RELAY-SOLIDSTATE; DeviceName: PTH; PROD_ID: SWCH-10481; SF_SKU: COM-10636; LibraryName: SparkFun-Retired; DeviceSetName: RELAY-SOLIDSTATE; Package: RELAY-S108T02
footprint RELAY-S108T02
pins: 1 T1 (io), 2 T2 (io), 3 + (io), 4 - (io)

## RELAY-SPDT-2-G5V
designator ?, comment SPDT Relay w/ Two Common Terminals SPDT relay (COM-00100)
GateName_1: G$1; SymbolName_1: RELAY-SPDT-2; DeviceName: -G5V; SF_SKU: COM-00524; LibraryName: SparkFun-Retired; DeviceSetName: RELAY-SPDT-2; Package: RELAY-G5V
footprint RELAY-G5V
pins: 1 (io), 2 (io), 5 (io), 6 (io), 9 (io), 10 (io)

## RELAY-SPDT-G5Q-1A
designator K?, comment SPDT relay (COM-00101)
GateName_1: K$1; SymbolName_1: RELAY-SPDT; DeviceName: -G5Q-1A; LibraryName: SparkFun-Retired; DeviceSetName: RELAY-SPDT; Package: RELAY-G5Q
footprint RELAY-G5Q
pins: 1 COIL2 (io), 2 MAIN (io), 3 NO (io), 4 NC (io), 5 COIL1 (io)

## RELAY-SPDTPTH2
designator K?, comment SPDT relay (COM-00101)
GateName_1: K$1; SymbolName_1: RELAY-SPDT; DeviceName: PTH2; LibraryName: SparkFun-Retired; DeviceSetName: RELAY-SPDT; Package: RELAY-T9A
footprint RELAY-T9A
pins: COIL1 (io), COIL2 (io), MAIN (io), NC (io), NO (io)

## RELAY-SPDTPTH3
designator K?, comment SPDT relay (COM-00101)
GateName_1: K$1; SymbolName_1: RELAY-SPDT; DeviceName: PTH3; PROD_ID: COMP-10736; SF_SKU: COM-10924; LibraryName: SparkFun-Retired; DeviceSetName: RELAY-SPDT; Package: RELAY-T9A-2
footprint RELAY-T9A-2
pins: COIL1 (io), COIL2 (io), MAIN (io), NC (io), NO (io)

## RJ9PTH
designator ?, comment This is a 4-pin connector commonly found on phone handsets. Great for simple TX/RX/PWR/GND connections. Sometime referred to as RJ9 or 4P4C.   SparkFun does not currently use this on any active designs, and the connector alone has been retired. However, for more info visit here:   https://www.sparkfun.com/products/retired/8694
GateName_1: G$1; SymbolName_1: CONN_04; DeviceName: PTH; LibraryName: SparkFun-Retired; DeviceSetName: RJ9; Package: RJ9
footprint RJ9
pins: 1, 2, 3, 4

## RN-131G
designator ?, comment Roving Netowrks WiFLy GSX Module
GateName_1: G$1; SymbolName_1: RN-131G; PROD_ID: IC-12671; SF_ID: WRL-10004; LibraryName: SparkFun-Retired; DeviceSetName: RN-131G; Package: RN-131G
footprint RN-131G
pins: P$1 SEN6 (io), P$2 SEN4 (io), P$3 SEN5 (io), P$4 SEN7 (io), P$5 RESET (io), P$6 EPC-A (io), P$7 EPC-B (io), P$8 S_CAP (io), P$9 F_AWAKE (io), P$10 GPIO-13 (io), P$11 GPIO-12 (io), P$12 RX (io), P$13 TX (io), P$14 MOSI (io), P$15 CLK (io), P$16 MISO (io), P$17 3.3V-ROUT (io), P$18 3.3V-RIN (io), P$19 GND@19 (io), P$20 VDD-BATT (io), P$21 VDD-IN (io), P$22 DMA-TX (io), P$23 DMA-RX (io), P$24 GPIO-9 (io), P$25 GPIO-8 (io), P$26 GPIO-7 (io), P$27 GPIO-6 (io), P$28 GPIO-5 (io), P$29 GPIO-4 (io), P$30 SEN1 (io), P$31 SEN2 (io), P$32 SEN3 (io), P$33 SENSE-PWR (io), P$34 SEN0 (io), P$36 GND@36 (io), P$37 GND@37 (io), P$38 GND@38 (io), P$39 GND@39 (io), P$40 GND@40 (io), P$41 GND@41 (io), P$42 GND@42 (io), P$43 GND@43 (io), P$44 GND@44 (io)

## RS9110
designator U?, comment Redpine WiFi module
GateName_1: G$1; SymbolName_1: RS9110-N-11-22; DeviceSetName: RS9110; PROD_ID: IC-10622; LibraryName: SparkFun-Retired; Package: RS9110-N-11-22-SHORT
footprint RS9110-N-11-22-SHORT
pins: 1 MOSI (io), 2 MISO (io), 3 INTR (io), 4 RST (io), 5 TX (io), 6 SD3 (io), 7 RX (io), 10 GND@10 (io), 16 GND@16 (io), 20 GND@20 (io), 21 GND@21 (io), 22 MODE (io), 42 JPD0 (io), 43 JPD1 (io), 44 JPD2 (io), 46 VIN@46 (io), 47 VIN@47 (io), 48 GND@48 (io), 51 CLK (io), 52 CS (io), GND GND@PAD (io)

## SC16IS750
designator IC?, comment SPI/I2C/IrDA to UART
GateName_1: G$1; SymbolName_1: SC16IS750; LibraryName: SparkFun-Retired; DeviceSetName: SC16IS750; Package: QFN-24
footprint QFN-24
pins: 1 RESET (io), 2 XTAL1 (io), 3 XTAL2 (io), 4 VDD (io), 5 I2C-/SPI (io), 6 A0-/CS (io), 7 A1-SI (io), 8 NC-SO (io), 9 SCL-SCLK (io), 10 SDA-VSS (io), 11 /IRQ (io), 12 GPIO0 (io), 13 GPIO1 (io), 14 GPIO2 (io), 15 GPIO3 (io), 16 VSS (io), 17 GPIO4-/DSR (io), 18 GPIO5-/DTR (io), 19 GPIO6-/CD (io), 20 GPIO7-/RI (io), 21 /RTS (io), 22 /CTS (io), 23 TX (io), 24 RX (io)

## SEW_HOLE
designator H?, comment SparkFun LilyPad Sew Hole    Simple sew-tap with .1" diameter hole with 20mil annular ring   SparkFun Products:  [PRODUCT 1]  [PRODUCT 2]  [PRODUCT 3]
GateName_1: G$1; SymbolName_1: SIMPLE_HOLE; DeviceSetName: SEW_HOLE; LibraryName: SparkFun-Retired; Package: SIMPLE_HOLE
footprint SIMPLE_HOLE
pins: P$1 (io)

## SEW_HOLE-SMALL
designator CONN?, comment SparkFun LilyPad Sew Hole    Simple sew-tap with .070" hole with 20mil annular ring   SparkFun Products:  [PRODUCT 1]  [PRODUCT 2]  [PRODUCT 3]
GateName_1: G$1; SymbolName_1: SIMPLE_HOLE_SM; DeviceSetName: SEW_HOLE-SMALL; LibraryName: SparkFun-Retired; Package: SIMPLE_HOLE_SM
footprint SIMPLE_HOLE_SM
pins: P$1 (io)

## SLB9645
designator ?
GateName_1: G$1; SymbolName_1: SLB9645; PROD_ID: IC-XXXX; LibraryName: SparkFun-Retired; DeviceSetName: SLB9645; Package: TSSOP28
footprint TSSOP28
pins: 1 SDA (io), 2 SCL (io), 4 GND@4 (io), 5 VDD@5 (io), 6 !DAVINT# (io), 7 PP (io), 9 !RESET# (io), 10 VDD@10 (io), 11 GND@11 (io), 18 GND@18 (io), 25 GND@25 (io)

## SMA_EDGE
designator J$?, comment SMA Antenna ConnectorEnd launch SMA connector. The paste layer has been removed so that the connector can be hand soldered onto the board after reflow.  (value not drawn)
GateName_1: 1; SymbolName_1: SMA_EDGE; LibraryName: SparkFun-Retired; DeviceSetName: SMA_EDGE; Package: SMA-EDGE
footprint SMA-EDGE
pins: GND@0 (io), GND@1 (io), GND@2 (io), GND@3 (io), SIG SIGNAL (io)

## SMARTCARDSMD
designator J?, comment Smart card socket- PRT-09368
GateName_1: G$1; DeviceName: SMD; SymbolName_1: SMARTCARD; LibraryName: SparkFun-Retired; DeviceSetName: SMARTCARD; Package: SMARTCARD
footprint SMARTCARD
pins: C1 VCC (io), C2 RST (io), C3 CLK (io), C4 (io), C5 GND (io), C6 VPP (io), C7 I/O (io), C8 (io), P1 SW1 (io), P2 SW2 (io)

## SOLDERJUMPER-OLDNC
designator SJ?, comment Solder JumperStandard SMD solder jumper. Used to automate production. Two varients : Normally Open and Normally Closed are the same, but have different paste layers. NC will have a large amount of paste and should jumper during reflow.
GateName_1: 1; SymbolName_1: SJ; DeviceSetName: SOLDERJUMPER-OLD; DeviceName: NC; LibraryName: SparkFun-Retired; Package: SJ_2S
footprint SJ_2S
pins: 1, 2

## SOLDERJUMPER-OLDNC2
designator SJ?, comment Solder JumperStandard SMD solder jumper. Used to automate production. Two varients : Normally Open and Normally Closed are the same, but have different paste layers. NC will have a large amount of paste and should jumper during reflow.
GateName_1: 1; SymbolName_1: SJ; DeviceName: NC2; DeviceSetName: SOLDERJUMPER-OLD; LibraryName: SparkFun-Retired; Package: SJ_2S-NOTRACE
footprint SJ_2S-NOTRACE
pins: 1, 2

## SOLDERJUMPER-OLDNO
designator SJ?, comment Solder JumperStandard SMD solder jumper. Used to automate production. Two varients : Normally Open and Normally Closed are the same, but have different paste layers. NC will have a large amount of paste and should jumper during reflow.
GateName_1: 1; SymbolName_1: SJ; DeviceName: NO; DeviceSetName: SOLDERJUMPER-OLD; LibraryName: SparkFun-Retired; Package: SJ_2S-NO
footprint SJ_2S-NO
pins: 1, 2

## SOLDERJUMPER-OLDTRACE
designator SJ?, comment Solder JumperStandard SMD solder jumper. Used to automate production. Two varients : Normally Open and Normally Closed are the same, but have different paste layers. NC will have a large amount of paste and should jumper during reflow.
GateName_1: 1; SymbolName_1: SJ; DeviceName: TRACE; DeviceSetName: SOLDERJUMPER-OLD; LibraryName: SparkFun-Retired; Package: SJ_2S-TRACE
footprint SJ_2S-TRACE
pins: 1, 2

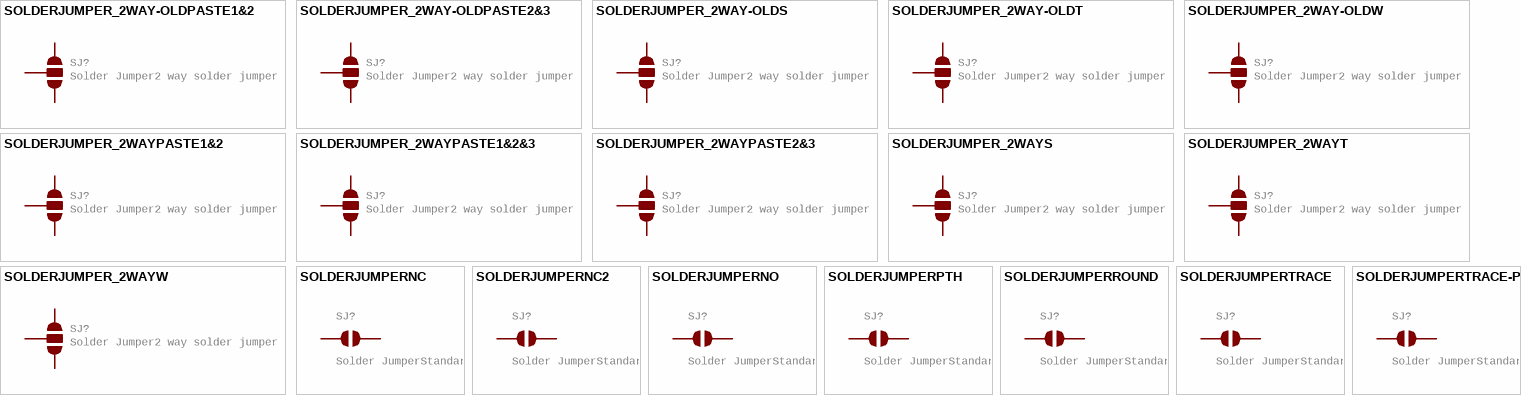
[diagram p19: symbols SOLDERJUMPER_2WAY-OLDPASTE1&2 to SOLDERJUMPERTRACE-PTH]

## SOLDERJUMPER_2WAY-OLDPASTE1&2
designator SJ?, comment Solder Jumper2 way solder jumper
GateName_1: G$1; SymbolName_1: SJ_2; DeviceName: PASTE1&2; DeviceSetName: SOLDERJUMPER_2WAY-OLD; LibraryName: SparkFun-Retired; Package: SJ_3_PASTE1&2
footprint SJ_3_PASTE1&2
pins: 1, 2, 3

## SOLDERJUMPER_2WAY-OLDPASTE2&3
designator SJ?, comment Solder Jumper2 way solder jumper
GateName_1: G$1; SymbolName_1: SJ_2; DeviceName: PASTE2&3; DeviceSetName: SOLDERJUMPER_2WAY-OLD; LibraryName: SparkFun-Retired; Package: SJ_3_PASTE2&3
footprint SJ_3_PASTE2&3
pins: 1, 2, 3

## SOLDERJUMPER_2WAY-OLDS
designator SJ?, comment Solder Jumper2 way solder jumper
GateName_1: G$1; SymbolName_1: SJ_2; DeviceName: S; DeviceSetName: SOLDERJUMPER_2WAY-OLD; LibraryName: SparkFun-Retired; Package: SJ_3
footprint SJ_3
pins: 1, 2, 3

## SOLDERJUMPER_2WAY-OLDT
designator SJ?, comment Solder Jumper2 way solder jumper
GateName_1: G$1; SymbolName_1: SJ_2; DeviceName: T; DeviceSetName: SOLDERJUMPER_2WAY-OLD; LibraryName: SparkFun-Retired; Package: SJ_2
footprint SJ_2
pins: 1, 2, 3

## SOLDERJUMPER_2WAY-OLDW
designator SJ?, comment Solder Jumper2 way solder jumper
GateName_1: G$1; SymbolName_1: SJ_2; DeviceName: W; DeviceSetName: SOLDERJUMPER_2WAY-OLD; LibraryName: SparkFun-Retired; Package: SJ_2W
footprint SJ_2W
pins: 1, 2, 3

## SOLDERJUMPER_2WAYPASTE1&2
designator SJ?, comment Solder Jumper2 way solder jumper
GateName_1: G$1; SymbolName_1: SJ_2; DeviceName: PASTE1&2; DeviceSetName: SOLDERJUMPER_2WAY; LibraryName: SparkFun-Retired; Package: SJ_3_PASTE1&2
footprint SJ_3_PASTE1&2
pins: 1, 2, 3

## SOLDERJUMPER_2WAYPASTE1&2&3
designator SJ?, comment Solder Jumper2 way solder jumper
GateName_1: G$1; SymbolName_1: SJ_2; DeviceName: PASTE1&2&3; DeviceSetName: SOLDERJUMPER_2WAY; LibraryName: SparkFun-Retired; Package: SJ_3_PASTE1&2&3
footprint SJ_3_PASTE1&2&3
pins: 1, 2, 3

## SOLDERJUMPER_2WAYPASTE2&3
designator SJ?, comment Solder Jumper2 way solder jumper
GateName_1: G$1; SymbolName_1: SJ_2; DeviceName: PASTE2&3; DeviceSetName: SOLDERJUMPER_2WAY; LibraryName: SparkFun-Retired; Package: SJ_3_PASTE2&3
footprint SJ_3_PASTE2&3
pins: 1, 2, 3

## SOLDERJUMPER_2WAYS
designator SJ?, comment Solder Jumper2 way solder jumper
GateName_1: G$1; SymbolName_1: SJ_2; DeviceName: S; DeviceSetName: SOLDERJUMPER_2WAY; LibraryName: SparkFun-Retired; Package: SJ_3
footprint SJ_3
pins: 1, 2, 3

## SOLDERJUMPER_2WAYT
designator SJ?, comment Solder Jumper2 way solder jumper
GateName_1: G$1; SymbolName_1: SJ_2; DeviceName: T; DeviceSetName: SOLDERJUMPER_2WAY; LibraryName: SparkFun-Retired; Package: SJ_2
footprint SJ_2
pins: 1, 2, 3

## SOLDERJUMPER_2WAYW
designator SJ?, comment Solder Jumper2 way solder jumper
GateName_1: G$1; SymbolName_1: SJ_2; DeviceName: W; DeviceSetName: SOLDERJUMPER_2WAY; LibraryName: SparkFun-Retired; Package: SJ_2W
footprint SJ_2W
pins: 1, 2, 3

## SOLDERJUMPERNC
designator SJ?, comment Solder JumperStandard SMD solder jumper. Used to automate production. Two varients : Normally Open and Normally Closed are the same, but have different paste layers. NC will have a large amount of paste and should jumper during reflow.
GateName_1: 1; SymbolName_1: SJ; DeviceName: NC; LibraryName: SparkFun-Retired; DeviceSetName: SOLDERJUMPER; Package: SJ_2S
footprint SJ_2S
pins: 1, 2

## SOLDERJUMPERNC2
designator SJ?, comment Solder JumperStandard SMD solder jumper. Used to automate production. Two varients : Normally Open and Normally Closed are the same, but have different paste layers. NC will have a large amount of paste and should jumper during reflow.
GateName_1: 1; SymbolName_1: SJ; DeviceName: NC2; LibraryName: SparkFun-Retired; DeviceSetName: SOLDERJUMPER; Package: SJ_2S-NOTRACE
footprint SJ_2S-NOTRACE
pins: 1, 2

## SOLDERJUMPERNO
designator SJ?, comment Solder JumperStandard SMD solder jumper. Used to automate production. Two varients : Normally Open and Normally Closed are the same, but have different paste layers. NC will have a large amount of paste and should jumper during reflow.
GateName_1: 1; SymbolName_1: SJ; DeviceName: NO; LibraryName: SparkFun-Retired; DeviceSetName: SOLDERJUMPER; Package: SJ_2S-NO
footprint SJ_2S-NO
pins: 1, 2

## SOLDERJUMPERPTH
designator SJ?, comment Solder JumperStandard SMD solder jumper. Used to automate production. Two varients : Normally Open and Normally Closed are the same, but have different paste layers. NC will have a large amount of paste and should jumper during reflow.
GateName_1: 1; SymbolName_1: SJ; DeviceName: PTH; LibraryName: SparkFun-Retired; DeviceSetName: SOLDERJUMPER; Package: SJ_2S-PTH
footprint SJ_2S-PTH
pins: 1, 2

## SOLDERJUMPERROUND
designator SJ?, comment Solder JumperStandard SMD solder jumper. Used to automate production. Two varients : Normally Open and Normally Closed are the same, but have different paste layers. NC will have a large amount of paste and should jumper during reflow.
GateName_1: 1; SymbolName_1: SJ; DeviceName: ROUND; LibraryName: SparkFun-Retired; DeviceSetName: SOLDERJUMPER; Package: SJ_ROUND
footprint SJ_ROUND
pins: 1, 2

## SOLDERJUMPERTRACE
designator SJ?, comment Solder JumperStandard SMD solder jumper. Used to automate production. Two varients : Normally Open and Normally Closed are the same, but have different paste layers. NC will have a large amount of paste and should jumper during reflow.
GateName_1: 1; SymbolName_1: SJ; DeviceName: TRACE; LibraryName: SparkFun-Retired; DeviceSetName: SOLDERJUMPER; Package: SJ_2S-TRACE
footprint SJ_2S-TRACE
pins: 1, 2

## SOLDERJUMPERTRACE-PTH
designator SJ?, comment Solder JumperStandard SMD solder jumper. Used to automate production. Two varients : Normally Open and Normally Closed are the same, but have different paste layers. NC will have a large amount of paste and should jumper during reflow.
GateName_1: 1; SymbolName_1: SJ; DeviceName: TRACE-PTH; LibraryName: SparkFun-Retired; DeviceSetName: SOLDERJUMPER; Package: SJ_2S-TRACE-PTH
footprint SJ_2S-TRACE-PTH
pins: 1, 2

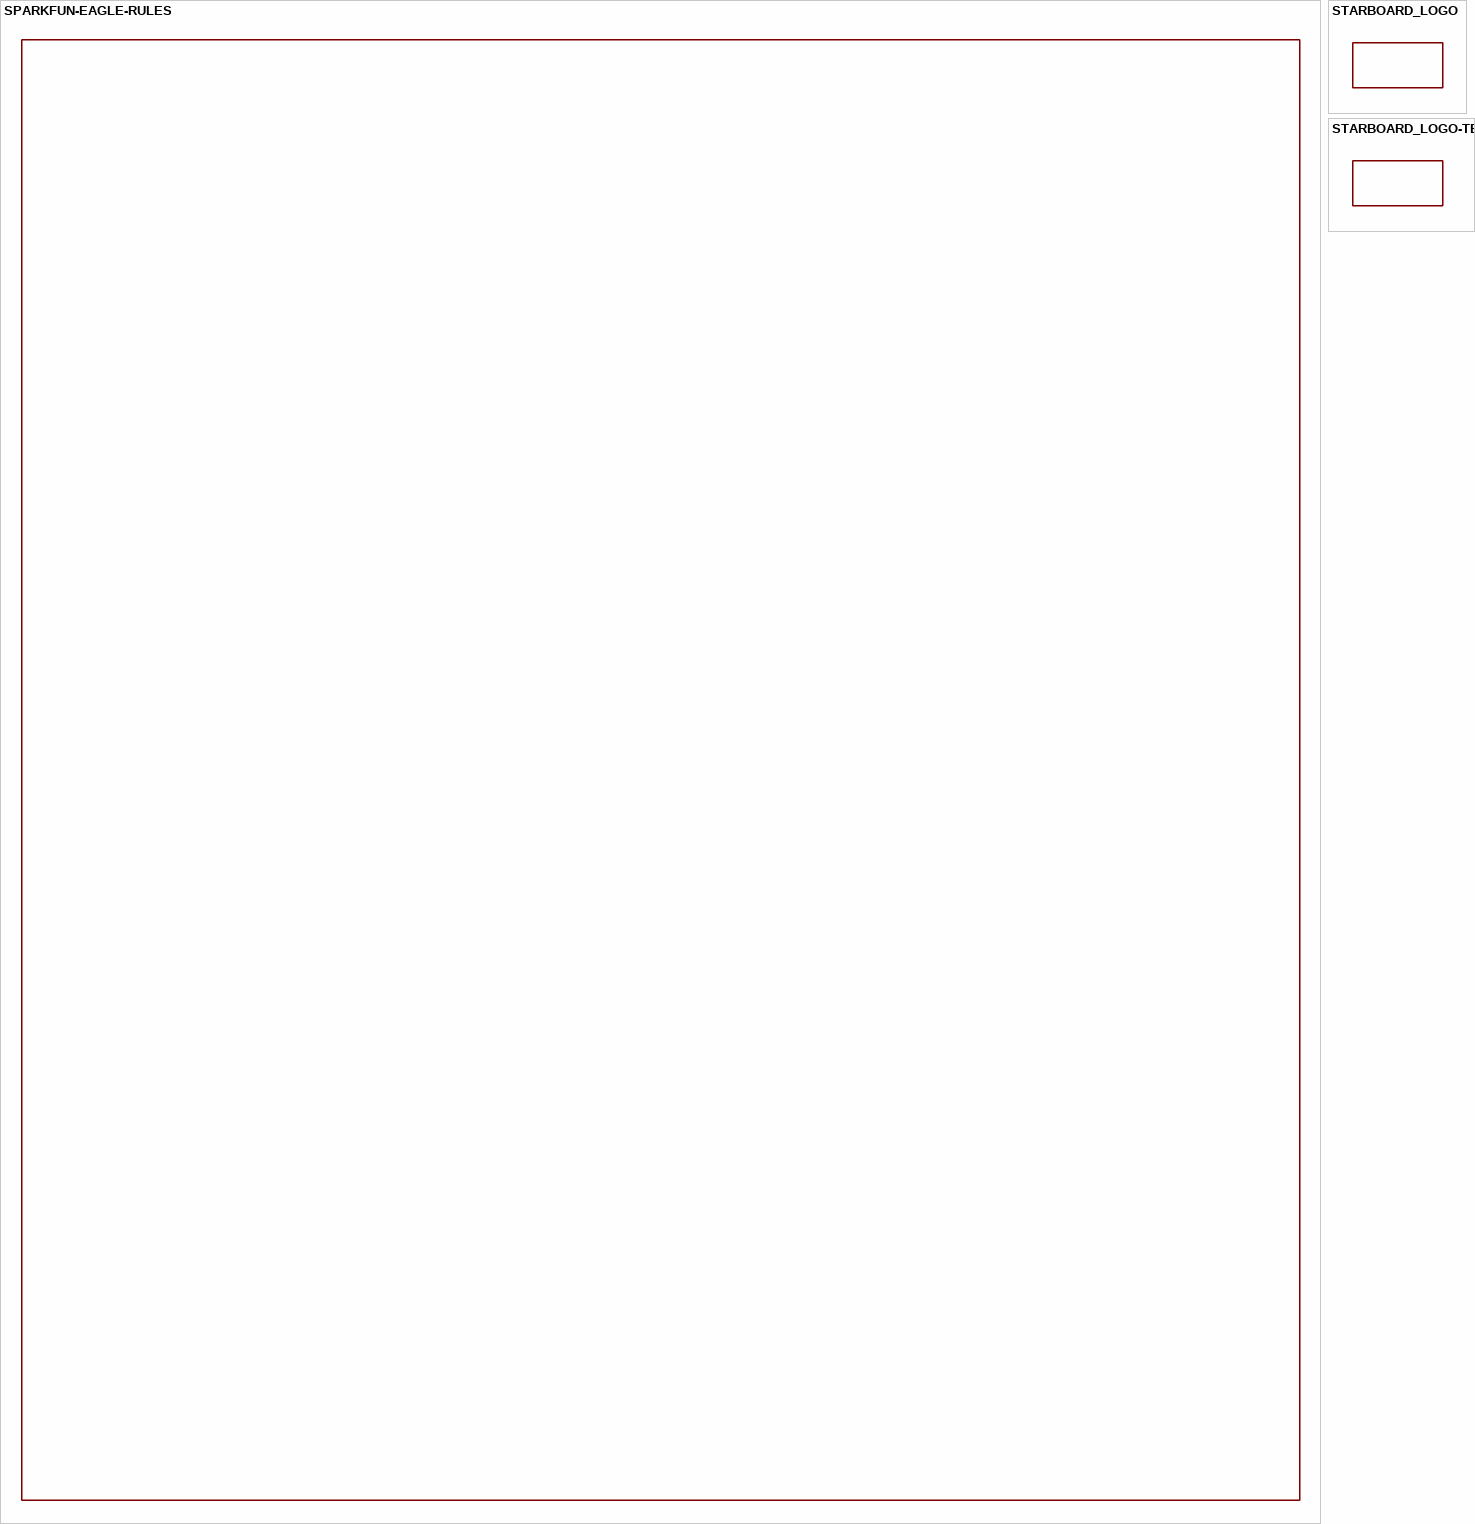
[diagram p20: symbols SPARKFUN-EAGLE-RULES to STARBOARD_LOGO-TEXT]

## SPARKFUN-EAGLE-RULES
designator RULES?, comment Description: These are the default rules that SparkFun engineers must follow. We highly recommend following these rules as well.  (value not drawn)
GateName_1: G$1; SymbolName_1: SPARKFUN-EAGLE-RULES; LibraryName: SparkFun-Retired; DeviceSetName: SPARKFUN-EAGLE-RULES

## STARBOARD_LOGO
designator LOGO?, comment Starboard - RETIRED PRT-10961 PRT-10640 PRT-10639 PRT-10638 PRT-10637 PRT-10572  (value not drawn)
GateName_1: G$1; SymbolName_1: STARBOARD_LOGO; LibraryName: SparkFun-Retired; DeviceSetName: STARBOARD_LOGO; Package: STARBOARD_LOGO
footprint STARBOARD_LOGO

## STARBOARD_LOGO-TEXT
designator LOGO?, comment Starboard - RETIRED PRT-10961 PRT-10640 PRT-10639 PRT-10638 PRT-10637 PRT-10572  (value not drawn)
GateName_1: G$1; SymbolName_1: STARBOARD_LOGO; DeviceName: -TEXT; LibraryName: SparkFun-Retired; DeviceSetName: STARBOARD_LOGO; Package: STARBOARD_LOGO_TEXT
footprint STARBOARD_LOGO_TEXT

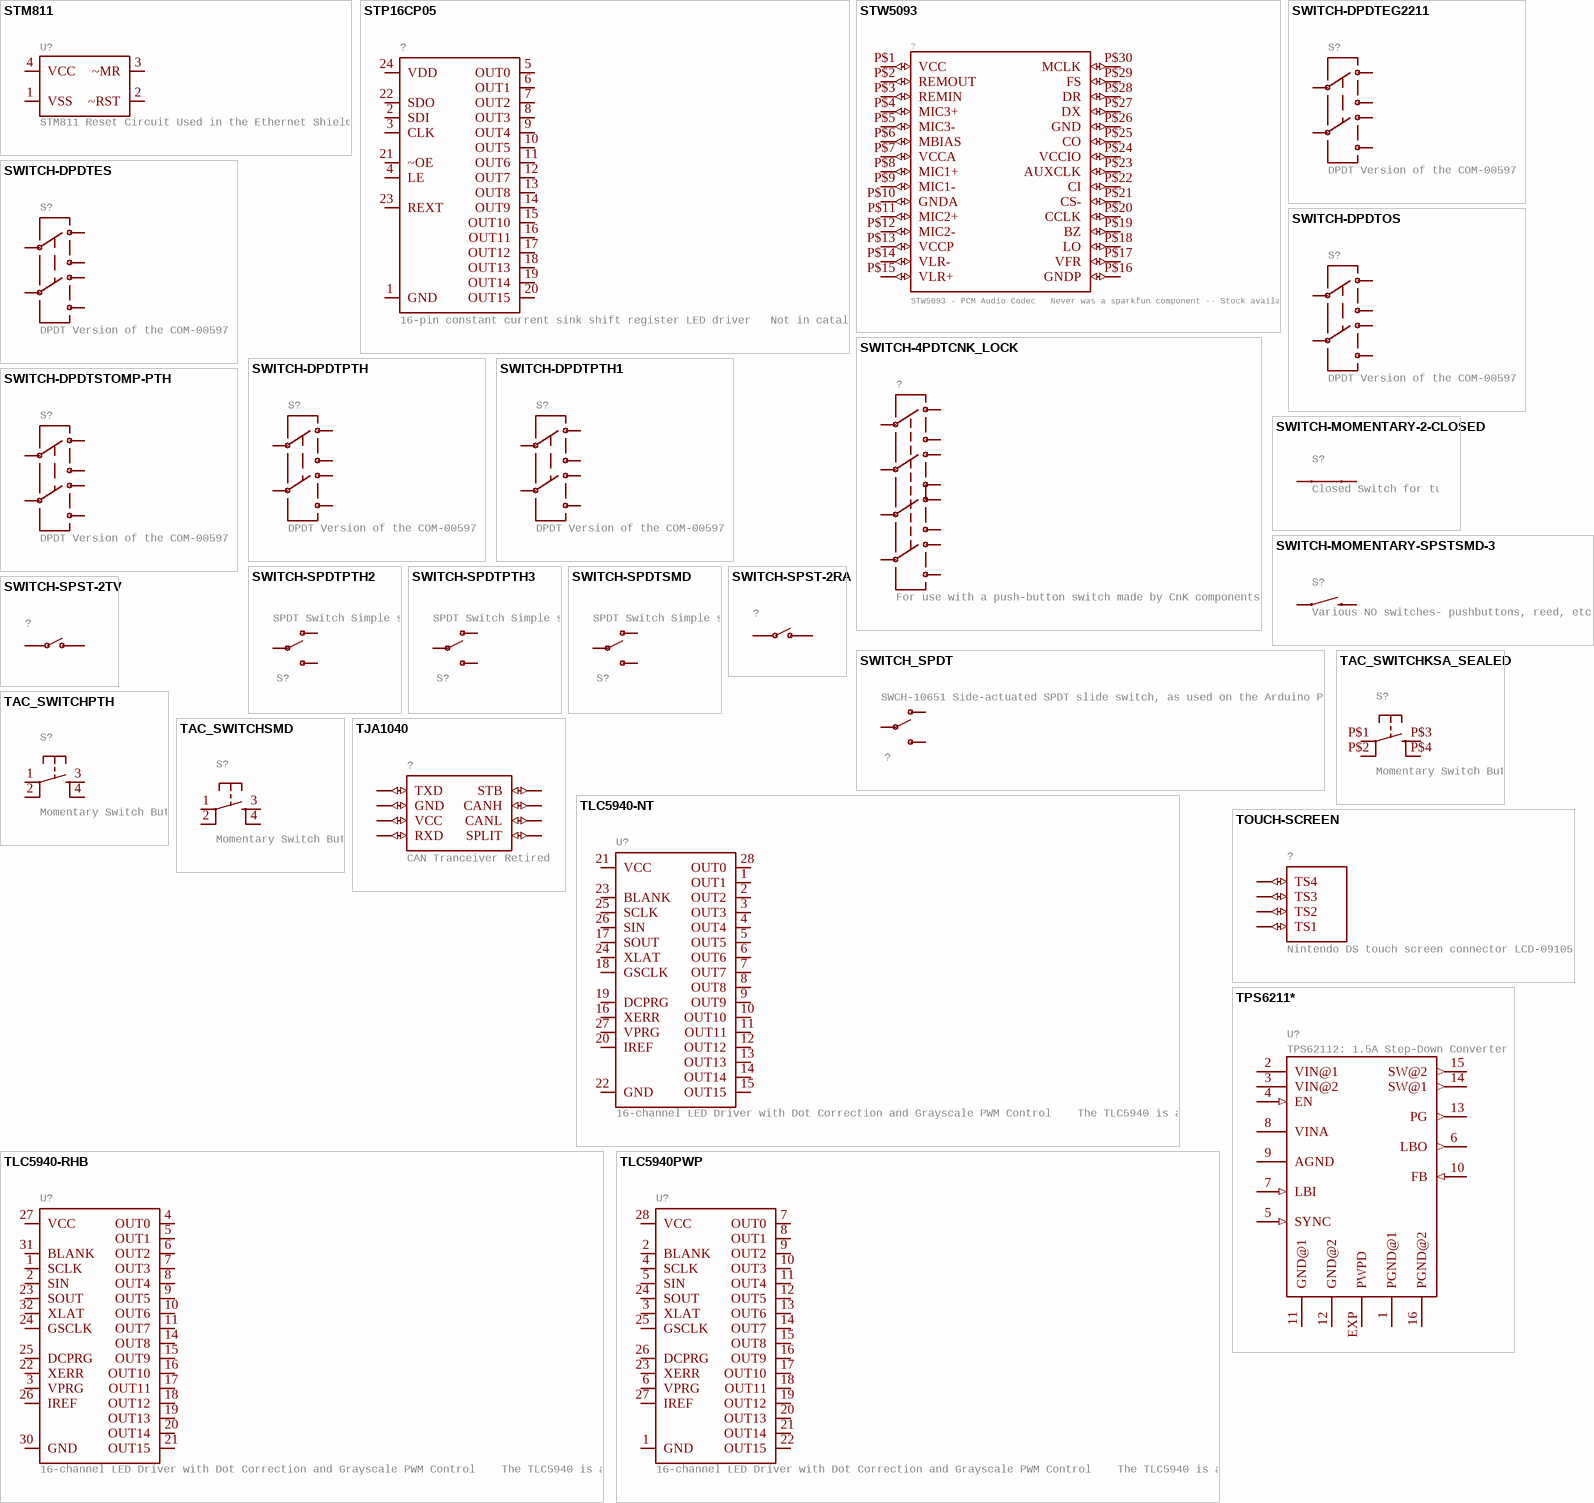
[diagram p21: symbols STM811 to TPS6211*]

## STM811
designator U?, comment STM811 Reset Circuit Used in the Ethernet Shield
GateName_1: G$1; SymbolName_1: STM811; LibraryName: SparkFun-Retired; DeviceSetName: STM811; Package: SOT143
footprint SOT143
pins: 1 VSS (io), 2 ~RST (io), 3 ~MR (io), 4 VCC (io)

## STP16CP05
designator ?, comment 16-pin constant current sink shift register LED driver   Not in catalog
GateName_1: G$1; SymbolName_1: STP16CP05/A6282; DeviceSetName: STP16CP05; LibraryName: SparkFun-Retired; Package: SO-24DW
footprint SO-24DW
pins: 1 GND (io), 2 SDI (io), 3 CLK (io), 4 LE (io), 5 OUT0 (io), 6 OUT1 (io), 7 OUT2 (io), 8 OUT3 (io), 9 OUT4 (io), 10 OUT5 (io), 11 OUT6 (io), 12 OUT7 (io), 13 OUT8 (io), 14 OUT9 (io), 15 OUT10 (io), 16 OUT11 (io), 17 OUT12 (io), 18 OUT13 (io), 19 OUT14 (io), 20 OUT15 (io), 21 ~OE (io), 22 SDO (io), 23 REXT (io), 24 VDD (io)

## STW5093
designator ?, comment STW5093 - PCM Audio Codec   Never was a sparkfun component -- Stock available
GateName_1: G$1; SymbolName_1: STW5093; LibraryName: SparkFun-Retired; DeviceSetName: STW5093; Package: TSSOP30
footprint TSSOP30
pins: P$1 VCC (io), P$2 REMOUT (io), P$3 REMIN (io), P$4 MIC3+ (io), P$5 MIC3- (io), P$6 MBIAS (io), P$7 VCCA (io), P$8 MIC1+ (io), P$9 MIC1- (io), P$10 GNDA (io), P$11 MIC2+ (io), P$12 MIC2- (io), P$13 VCCP (io), P$14 VLR- (io), P$15 VLR+ (io), P$16 GNDP (io), P$17 VFR (io), P$18 LO (io), P$19 BZ (io), P$20 CCLK (io), P$21 CS- (io), P$22 CI (io), P$23 AUXCLK (io), P$24 VCCIO (io), P$25 CO (io), P$26 GND (io), P$27 DX (io), P$28 DR (io), P$29 FS (io), P$30 MCLK (io)

## SWITCH-4PDTCNK_LOCK
designator ?, comment For use with a push-button switch made by CnK components.
GateName_1: G$1; SymbolName_1: SWITCH-4PDT; DeviceName: CNK_LOCK; PROD_ID: SWCH-09564; LibraryName: SparkFun-Retired; DeviceSetName: SWITCH-4PDT; Package: SWITCH-4PDT-CNK
footprint SWITCH-4PDT-CNK
pins: PP$1 1 (io), PP$2 2 (io), PP$3 3 (io), PP$4 4 (io), PP$5 5 (io), PP$6 6 (io), PP$7 7 (io), PP$8 8 (io), PP$9 9 (io), PP$10 10 (io), PP$11 11 (io), PP$12 12 (io)

## SWITCH-DPDTEG2211
designator S?, comment DPDT Version of the COM-00597
GateName_1: G$1; SymbolName_1: AYZ0202; DeviceName: EG2211; DeviceSetName: SWITCH-DPDT; LibraryName: SparkFun-Retired; Package: EG2211
footprint EG2211
pins: P1 2 (io), P1-TA 1 (io), P1-TB 3 (io), P2 5 (io), P2-TA 4 (io), P2-TB 6 (io)

## SWITCH-DPDTES
designator S?, comment DPDT Version of the COM-00597
GateName_1: G$1; SymbolName_1: AYZ0202; DeviceName: ES; DeviceSetName: SWITCH-DPDT; LibraryName: SparkFun-Retired; Package: ES
footprint ES
pins: 1 (io), 2 (io), 3 (io), 4 (io), 5 (io), 6 (io)

## SWITCH-DPDTOS
designator S?, comment DPDT Version of the COM-00597
GateName_1: G$1; SymbolName_1: AYZ0202; DeviceName: OS; DeviceSetName: SWITCH-DPDT; LibraryName: SparkFun-Retired; Package: OS
footprint OS
pins: 1 (io), 2 (io), 3 (io), 4 (io), 5 (io), 6 (io)

## SWITCH-DPDTPTH
designator S?, comment DPDT Version of the COM-00597
GateName_1: G$1; SymbolName_1: AYZ0202; DeviceName: PTH; DeviceSetName: SWITCH-DPDT; PROD_ID: SWCH-09244; LibraryName: SparkFun-Retired; Package: MSS22
footprint MSS22
pins: 1 (io), 2 (io), 3 (io), 4 (io), 5 (io), 6 (io)

## SWITCH-DPDTPTH1
designator S?, comment DPDT Version of the COM-00597
GateName_1: G$1; SymbolName_1: AYZ0202; DeviceName: PTH1; DeviceSetName: SWITCH-DPDT; SF_SKU: COM-11139; LibraryName: SparkFun-Retired; Package: MS
footprint MS
pins: 1 (io), 2 (io), 3 (io), 4 (io), 5 (io), 6 (io)

## SWITCH-DPDTSTOMP-PTH
designator S?, comment DPDT Version of the COM-00597
GateName_1: G$1; SymbolName_1: AYZ0202; DeviceName: STOMP-PTH; DeviceSetName: SWITCH-DPDT; PROD_ID: SWCH-12340; SF_SKU: COM-11151; LibraryName: SparkFun-Retired; Package: STOMP-SWITCH-DPDT
footprint STOMP-SWITCH-DPDT
pins: P$1 1 (io), P$2 2 (io), P$3 3 (io), P$4 4 (io), P$5 5 (io), P$6 6 (io)

## SWITCH-MOMENTARY-2-CLOSED
designator S?, comment Closed Switch for tutorial schematics.  Not intended for PCB design. Maps to 12mm tact switch, only because eagle won't place a part with no package defined. The ordinary SWITCH-MOMENTARY-2 is likely to be more useful for regular schematics.
GateName_1: G$1; SymbolName_1: SWITCH-MOMENTARY-2-CLOSED; LibraryName: SparkFun-Retired; DeviceSetName: SWITCH-MOMENTARY-2-CLOSED; Package: TACTILE-PTH-12MM
footprint TACTILE-PTH-12MM
pins: 1, 3 2

## SWITCH-MOMENTARY-SPSTSMD-3
designator S?, comment Various NO switches- pushbuttons, reed, etc
GateName_1: G$1; SymbolName_1: SWITCH-MOMENTARY-2; DeviceName: SMD-3; DeviceSetName: SWITCH-MOMENTARY-SPST; LibraryName: SparkFun-Retired; Package: TACTILE_SWITCH_SMD-3
footprint TACTILE_SWITCH_SMD-3
pins: 1, 4 2

## SWITCH-SPDTPTH2
designator S?, comment SPDT Switch Simple slide switch, Spark Fun Electronics SKU : COM-00102 DPDT SMT slide switch, AYZ0202, SWCH-08179
GateName_1: 1; SymbolName_1: TOGGLE; DeviceName: PTH2; DeviceSetName: SWITCH-SPDT; LibraryName: SparkFun-Retired; Package: SWITCH-DPDT
footprint SWITCH-DPDT
pins: 1 O, 2 P, 3 S

## SWITCH-SPDTPTH3
designator S?, comment SPDT Switch Simple slide switch, Spark Fun Electronics SKU : COM-00102 DPDT SMT slide switch, AYZ0202, SWCH-08179
GateName_1: 1; SymbolName_1: TOGGLE; DeviceName: PTH3; DeviceSetName: SWITCH-SPDT; LibraryName: SparkFun-Retired; Package: R_SW_TH
footprint R_SW_TH
pins: P$1 O, P$2 P, P$3 S

## SWITCH-SPDTSMD
designator S?, comment SPDT Switch Simple slide switch, Spark Fun Electronics SKU : COM-00102 DPDT SMT slide switch, AYZ0202, SWCH-08179
GateName_1: 1; SymbolName_1: TOGGLE; DeviceName: SMD; DeviceSetName: SWITCH-SPDT; LibraryName: SparkFun-Retired; Package: SWITCH_SPDT_SMD
footprint SWITCH_SPDT_SMD
pins: 1 O, 2 P, 3 S

## SWITCH-SPST-2RA
designator ?
GateName_1: G$1; SymbolName_1: SPST; DeviceName: RA; DeviceSetName: SWITCH-SPST-2; LibraryName: SparkFun-Retired; Package: R_SW_TH
footprint R_SW_TH
pins: P$3 O, P$4 P

## SWITCH-SPST-2TV
designator ?
GateName_1: G$1; SymbolName_1: SPST; DeviceName: TV; DeviceSetName: SWITCH-SPST-2; LibraryName: SparkFun-Retired; Package: SWITCH-SPST-VERTICAL
footprint SWITCH-SPST-VERTICAL
pins: 1 O, 2 P

## SWITCH_SPDT
designator ?, comment SWCH-10651 Side-actuated SPDT slide switch, as used on the Arduino Pro
GateName_1: G$1; SymbolName_1: SW_SPDT; DeviceSetName: SWITCH_SPDT; LibraryName: SparkFun-Retired; Package: KPS-1290; PROD_ID: SWCH-10651
footprint KPS-1290
pins: O, P, S

## TAC_SWITCHKSA_SEALED
designator S?, comment Momentary Switch Button commonly used for reset or general input. Spark Fun Electronics SKU : COM-00097 SMT- SWCH-08247
GateName_1: S; SymbolName_1: SWITCH-MOMENTARY; DeviceName: KSA_SEALED; DeviceSetName: TAC_SWITCH; LibraryName: SparkFun-Retired; Package: KSA_SEALED_TAC_SWITCH
footprint KSA_SEALED_TAC_SWITCH
pins: P$1 1, P$2 2, P$3 3, P$4 4

## TAC_SWITCHPTH
designator S?, comment Momentary Switch Button commonly used for reset or general input. Spark Fun Electronics SKU : COM-00097 SMT- SWCH-08247
GateName_1: S; SymbolName_1: SWITCH-MOMENTARY; DeviceName: PTH; DeviceSetName: TAC_SWITCH; LibraryName: SparkFun-Retired; Package: TACTILE-PTH
footprint TACTILE-PTH
pins: 1, 2, 3, 4

## TAC_SWITCHSMD
designator S?, comment Momentary Switch Button commonly used for reset or general input. Spark Fun Electronics SKU : COM-00097 SMT- SWCH-08247
GateName_1: S; SymbolName_1: SWITCH-MOMENTARY; DeviceName: SMD; DeviceSetName: TAC_SWITCH; LibraryName: SparkFun-Retired; Package: TACTILE-SWITCH-SMD; PROD_ID: SWCH-08247
footprint TACTILE-SWITCH-SMD
pins: 1, 2, 3, 4

## TJA1040
designator ?, comment CAN Tranceiver Retired
GateName_1: G$1; SymbolName_1: TJA1040TD-T; DeviceSetName: TJA1040; LibraryName: SparkFun-Retired; Package: SO08
footprint SO08
pins: 1 TXD (io), 2 GND (io), 3 VCC (io), 4 RXD (io), 5 SPLIT (io), 6 CANL (io), 7 CANH (io), 8 STB (io)

## TLC5940-NT
designator U?, comment 16-channel LED Driver with Dot Correction and Grayscale PWM Control    The TLC5940 is a 16-channel, constant-current sink LED driver. Each channel has an individually adjustable 4096-step grayscale PWM brightness control and a 64-step, constant-current sink (dot correction). The dot correction adjusts the brightness variations between LED channels and other LED drivers. The dot correction data is stored in an integrated EEPROM. Both grayscale control and dot correction are accessible via a serial interface. A single external resistor sets the maximum current value of all 16 channels.   Packages: 28-pin HTSSOP  32-pin 5x5mm QFN  28-pin DIP
GateName_1: G$1; DeviceName: -NT; SymbolName_1: TLC5940; LibraryName: SparkFun-Retired; DeviceSetName: TLC5940; Package: DIL28-3
footprint DIL28-3
pins: 1 OUT1 (io), 2 OUT2 (io), 3 OUT3 (io), 4 OUT4 (io), 5 OUT5 (io), 6 OUT6 (io), 7 OUT7 (io), 8 OUT8 (io), 9 OUT9 (io), 10 OUT10 (io), 11 OUT11 (io), 12 OUT12 (io), 13 OUT13 (io), 14 OUT14 (io), 15 OUT15 (io), 16 XERR (io), 17 SOUT (io), 18 GSCLK (io), 19 DCPRG (io), 20 IREF (io), 21 VCC (io), 22 GND (io), 23 BLANK (io), 24 XLAT (io), 25 SCLK (io), 26 SIN (io), 27 VPRG (io), 28 OUT0 (io)

## TLC5940-RHB
designator U?, comment 16-channel LED Driver with Dot Correction and Grayscale PWM Control    The TLC5940 is a 16-channel, constant-current sink LED driver. Each channel has an individually adjustable 4096-step grayscale PWM brightness control and a 64-step, constant-current sink (dot correction). The dot correction adjusts the brightness variations between LED channels and other LED drivers. The dot correction data is stored in an integrated EEPROM. Both grayscale control and dot correction are accessible via a serial interface. A single external resistor sets the maximum current value of all 16 channels.   Packages: 28-pin HTSSOP  32-pin 5x5mm QFN  28-pin DIP
GateName_1: G$1; DeviceName: -RHB; PROD_ID: IC-10398; SymbolName_1: TLC5940; LibraryName: SparkFun-Retired; DeviceSetName: TLC5940; Package: QFN-32
footprint QFN-32
pins: 1 SCLK (io), 2 SIN (io), 3 VPRG (io), 4 OUT0 (io), 5 OUT1 (io), 6 OUT2 (io), 7 OUT3 (io), 8 OUT4 (io), 9 OUT5 (io), 10 OUT6 (io), 11 OUT7 (io), 14 OUT8 (io), 15 OUT9 (io), 16 OUT10 (io), 17 OUT11 (io), 18 OUT12 (io), 19 OUT13 (io), 20 OUT14 (io), 21 OUT15 (io), 22 XERR (io), 23 SOUT (io), 24 GSCLK (io), 25 DCPRG (io), 26 IREF (io), 27 VCC (io), 30 GND (io), 31 BLANK (io), 32 XLAT (io)

## TLC5940PWP
designator U?, comment 16-channel LED Driver with Dot Correction and Grayscale PWM Control    The TLC5940 is a 16-channel, constant-current sink LED driver. Each channel has an individually adjustable 4096-step grayscale PWM brightness control and a 64-step, constant-current sink (dot correction). The dot correction adjusts the brightness variations between LED channels and other LED drivers. The dot correction data is stored in an integrated EEPROM. Both grayscale control and dot correction are accessible via a serial interface. A single external resistor sets the maximum current value of all 16 channels.   Packages: 28-pin HTSSOP  32-pin 5x5mm QFN  28-pin DIP
GateName_1: G$1; DeviceName: PWP; SymbolName_1: TLC5940; LibraryName: SparkFun-Retired; DeviceSetName: TLC5940; Package: TSSOP28-GROUNDPAD
footprint TSSOP28-GROUNDPAD
pins: 1 GND (io), 2 BLANK (io), 3 XLAT (io), 4 SCLK (io), 5 SIN (io), 6 VPRG (io), 7 OUT0 (io), 8 OUT1 (io), 9 OUT2 (io), 10 OUT3 (io), 11 OUT4 (io), 12 OUT5 (io), 13 OUT6 (io), 14 OUT7 (io), 15 OUT8 (io), 16 OUT9 (io), 17 OUT10 (io), 18 OUT11 (io), 19 OUT12 (io), 20 OUT13 (io), 21 OUT14 (io), 22 OUT15 (io), 23 XERR (io), 24 SOUT (io), 25 GSCLK (io), 26 DCPRG (io), 27 IREF (io), 28 VCC (io)

## TOUCH-SCREEN
designator ?, comment Nintendo DS touch screen connector LCD-09105
GateName_1: G$1; SymbolName_1: TOUCH-SCREEN; LibraryName: SparkFun-Retired; DeviceSetName: TOUCH-SCREEN; Package: TOUCH-SCREEN
footprint TOUCH-SCREEN
pins: P$1 TS4 (io), P$2 TS3 (io), P$3 TS2 (io), P$4 TS1 (io)

## TPS6211*
designator U?, comment TPS62112: 1.5A Step-Down Converter
GateName_1: G$1; SymbolName_1: TPS6211*; LibraryName: SparkFun-Retired; DeviceSetName: TPS6211*; Package: QFN16-4X4
footprint QFN16-4X4
pins: 1 PGND@1 (power), 2 VIN@1 (power), 3 VIN@2 (power), 4 EN (in), 5 SYNC (in), 6 LBO (out), 7 LBI (in), 8 VINA (power), 9 AGND (power), 10 FB (in), 11 GND@1 (power), 12 GND@2 (power), 13 PG (out), 14 SW@1 (out), 15 SW@2 (out), 16 PGND@2 (power), EXP PWPD (power)

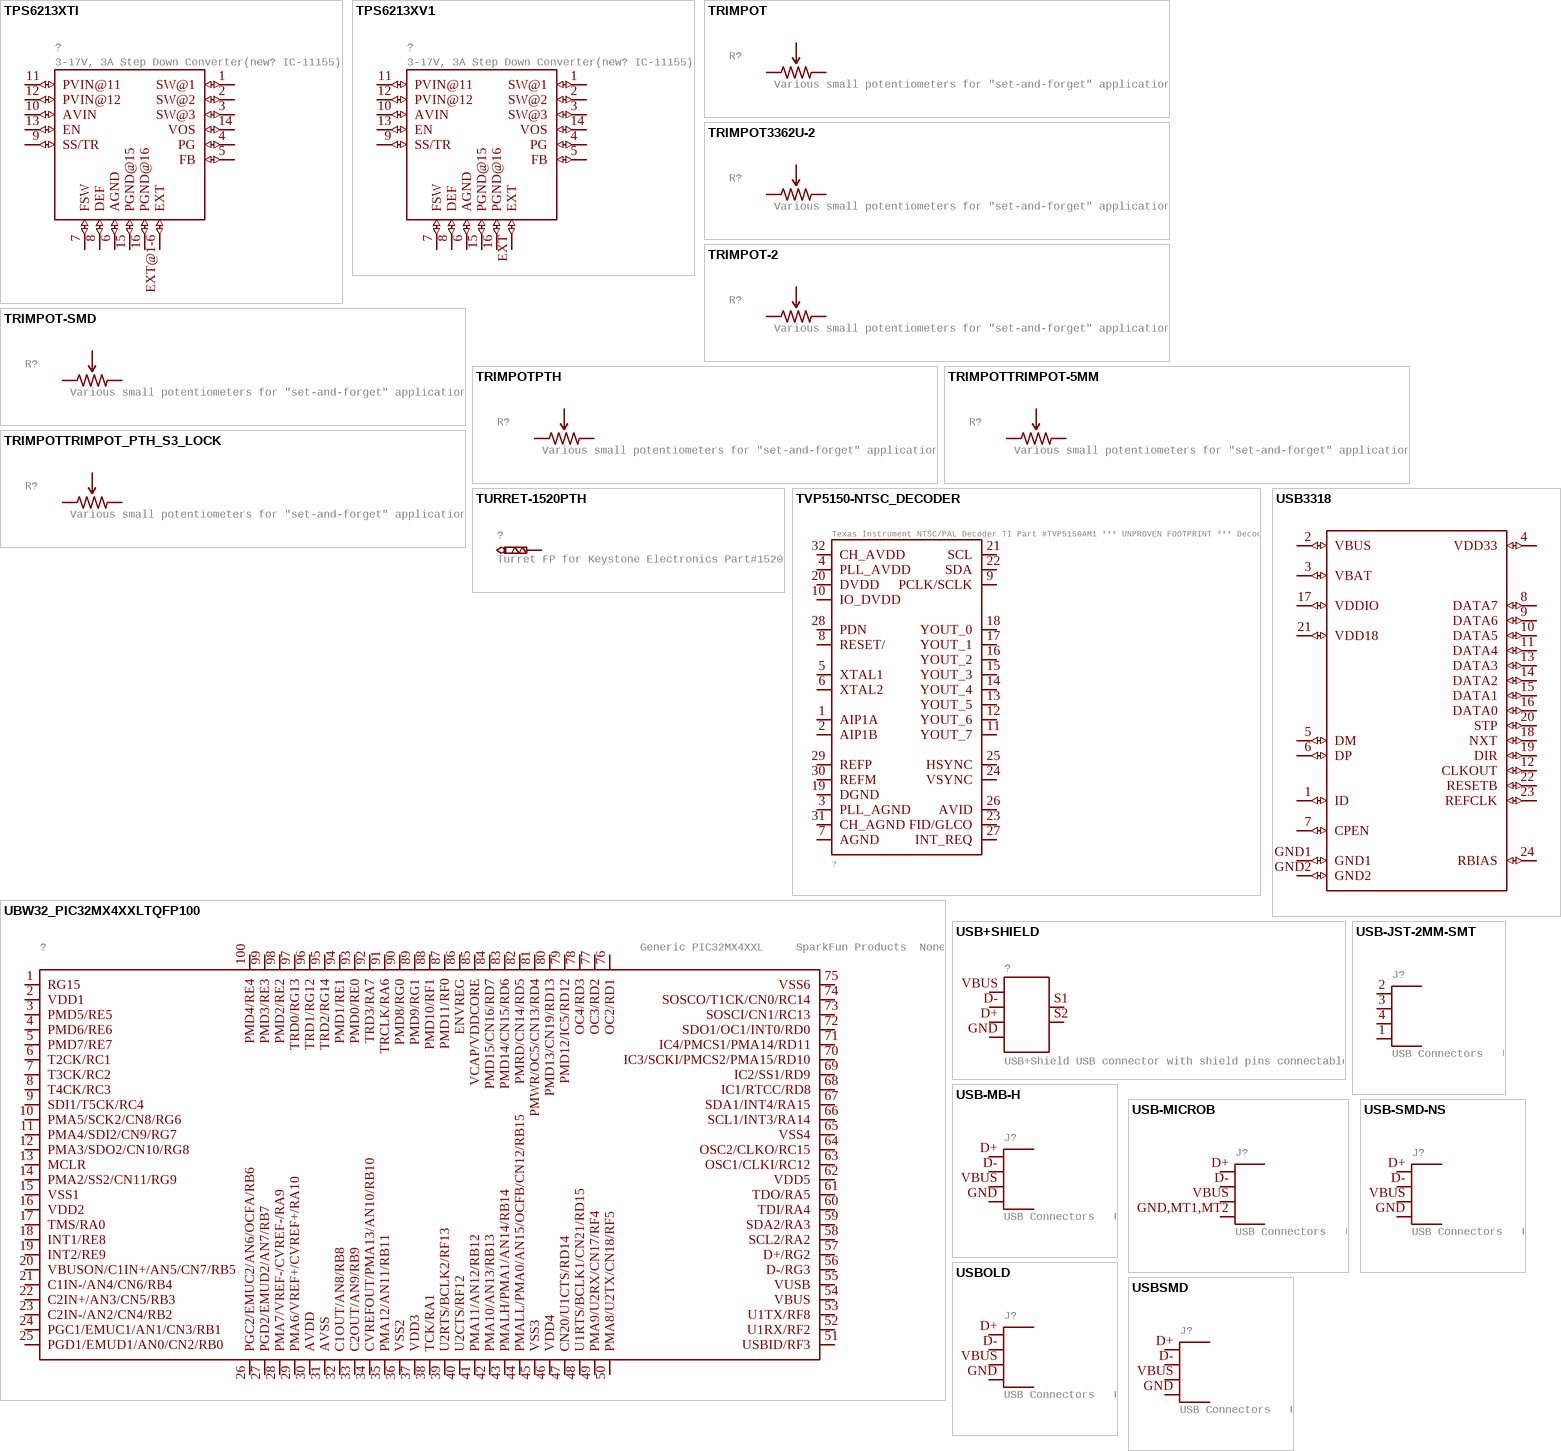
[diagram p22: symbols TPS6213XTI to USBSMD]

## TPS6213XTI
designator ?, comment 3-17V, 3A Step Down Converter(new? IC-11155)
GateName_1: G$1; SymbolName_1: TPS6213X; DeviceName: TI; LibraryName: SparkFun-Retired; DeviceSetName: TPS6213X; Package: QFN16-3X3MM_TI
footprint QFN16-3X3MM_TI
pins: 1 SW@1 (io), 2 SW@2 (io), 3 SW@3 (io), 4 PG (io), 5 FB (io), 6 AGND (io), 7 FSW (io), 8 DEF (io), 9 SS/TR (io), 10 AVIN (io), 11 PVIN@11 (io), 12 PVIN@12 (io), 13 EN (io), 14 VOS (io), 15 PGND@15 (io), 16 PGND@16 (io), EXT@1-6 EXT (io)